# Altium integrated library Renesas Microcontroller H8.IntLib: 489 symbols (part 24 of 25)
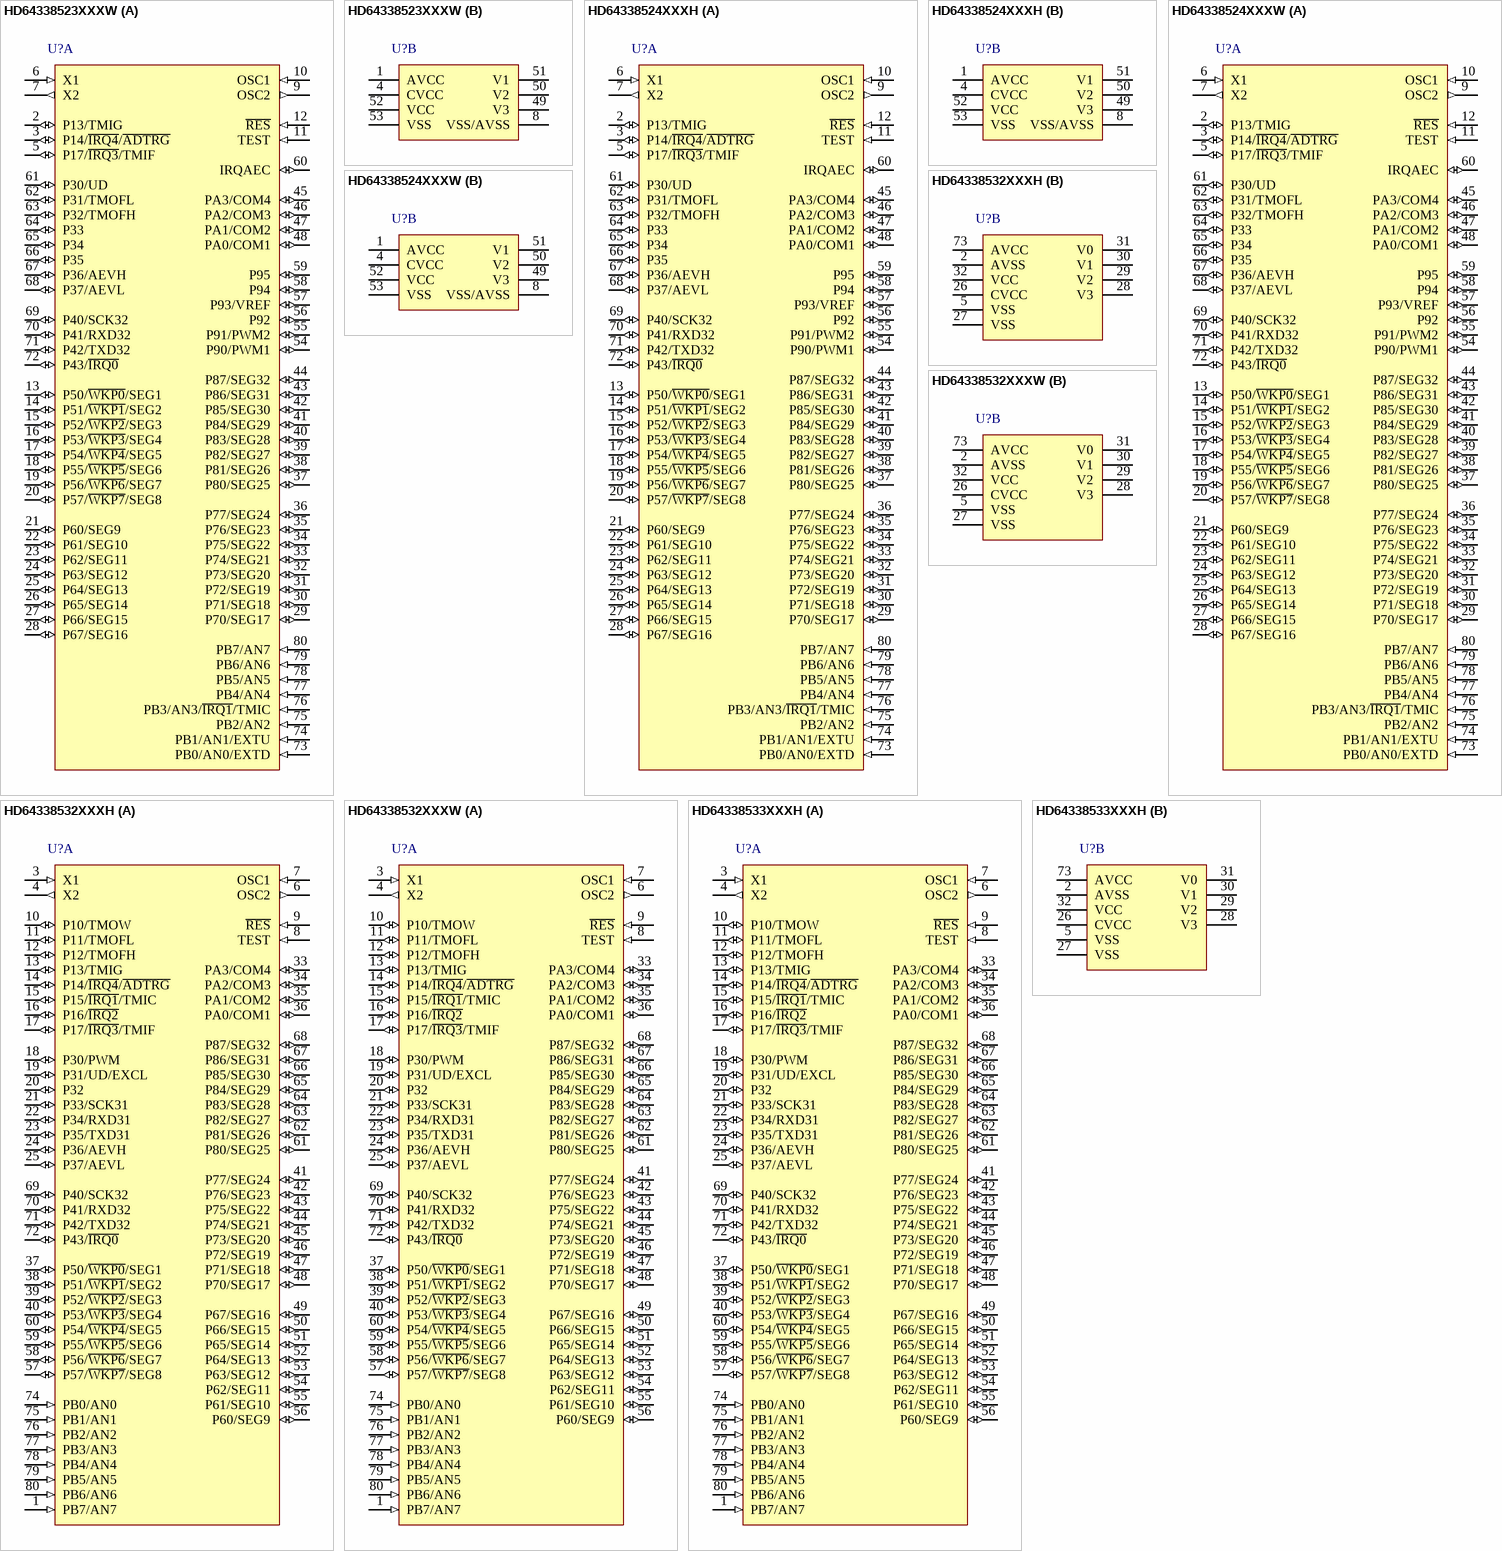
[diagram p111: symbols HD64338523XXXW to HD64338533XXXH]

## HD64338532XXXH
designator U?
H8 Family 32/16-bit CISC, H8/300H Super Low Power, 16K ROM, 1K RAM, 8MHz, 2.7 to 5.5V, 80-Pin QFP; Published: 28-Aug-2009; DatasheetVersion: Rev.1.00, May-2008; PackageVersion: Sep-2005; PackageReference: PRQP0080JB-A; Publisher: Altium Limited; PackageDescription: 80-Pin Plastic Quad Flat Pack, 14 x 14 x 2.7 mm Body, 0.65 mm Pitch; Code_JEITA: P-QFP80-14x14-0.65; Code_IPC: QFP65P1720X1720-80; ComponentLink1Description: Manufacturer Link; ComponentLink1URL: http://sg.renesas.com/fmwk.jsp?cnt=h8_family_landing.jsp&fp=/products/mpumcu/h8_family/; ComponentLink2Description: Datasheet; ComponentLink2URL: http://documentation.renesas.com/eng/products/mpumcu/rej09b0436_h8_38537hm.pdf; ComponentLink3Description: Packaging Specification; ComponentLink3URL: http://sg.renesas.com/media/products/common_info/package/pdf/ic/code/prqp0080jb_a.pdf
footprint PRQP0080JB-A_N (QFP, 80-Leads, Body 14x14mm, Pitch 0.65mm, IPC Medium Density)
footprint PRQP0080JB-A_L (QFP, 80-Leads, Body 14x14mm, Pitch 0.65mm, IPC High Density)
footprint PRQP0080JB-A_M (QFP, 80-Leads, Body 14x14mm, Pitch 0.65mm, IPC Low Density)
part A pins: 1 PB7/AN7 (in), 3 X1 (in), 4 X2 (out), 6 OSC2 (out), 7 OSC1 (in), 8 TEST (in), 9 ~{RES} (in), 10 P10/TMOW (io), 11 P11/TMOFL (io), 12 P12/TMOFH (io), 13 P13/TMIG (io), 14 P14/~{IRQ4}/~{ADTRG} (io), 15 P15/~{IRQ1}/TMIC (io), 16 P16/~{IRQ2} (io), 17 P17/~{IRQ3}/TMIF (io), 18 P30/PWM (io), 19 P31/UD/EXCL (io), 20 P32 (io), 21 P33/SCK31 (io), 22 P34/RXD31 (io), 23 P35/TXD31 (io), 24 P36/AEVH (io), 25 P37/AEVL (io), 33 PA3/COM4 (io), 34 PA2/COM3 (io), 35 PA1/COM2 (io), 36 PA0/COM1 (io), 37 P50/~{WKP0}/SEG1 (io), 38 P51/~{WKP1}/SEG2 (io), 39 P52/~{WKP2}/SEG3 (io), 40 P53/~{WKP3}/SEG4 (io), 41 P77/SEG24 (io), 42 P76/SEG23 (io), 43 P75/SEG22 (io), 44 P74/SEG21 (io), 45 P73/SEG20 (io), 46 P72/SEG19 (io), 47 P71/SEG18 (io), 48 P70/SEG17 (io), 49 P67/SEG16 (io), 50 P66/SEG15 (io), 51 P65/SEG14 (io), 52 P64/SEG13 (io), 53 P63/SEG12 (io), 54 P62/SEG11 (io), 55 P61/SEG10 (io), 56 P60/SEG9 (io), 57 P57/~{WKP7}/SEG8 (io), 58 P56/~{WKP6}/SEG7 (io), 59 P55/~{WKP5}/SEG6 (io), 60 P54/~{WKP4}/SEG5 (io), 61 P80/SEG25 (io), 62 P81/SEG26 (io), 63 P82/SEG27 (io), 64 P83/SEG28 (io), 65 P84/SEG29 (io), 66 P85/SEG30 (io), 67 P86/SEG31 (io), 68 P87/SEG32 (io), 69 P40/SCK32 (io), 70 P41/RXD32 (io), 71 P42/TXD32 (io), 72 P43/~{IRQ0} (io), 74 PB0/AN0 (in), 75 PB1/AN1 (in), 76 PB2/AN2 (in), 77 PB3/AN3 (in), 78 PB4/AN4 (in), 79 PB5/AN5 (in), 80 PB6/AN6 (in)
part B pins: 2 AVSS (power), 5 VSS (power), 26 CVCC (power), 27 VSS (power), 28 V3 (power), 29 V2 (power), 30 V1 (power), 31 V0 (power), 32 VCC (power), 73 AVCC (power)

## HD64338532XXXW
designator U?
H8 Family 32/16-bit CISC, H8/300H Super Low Power, 16K ROM, 1K RAM, 8MHz, 2.7 to 5.5V, 80-Pin QFP; Published: 28-Aug-2009; DatasheetVersion: Rev.1.00, May-2008; PackageVersion: Sep-2005; PackageReference: PTQP0080KC-A; Publisher: Altium Limited; PackageDescription: 80-Pin Plastic Thin Quad Flat Pack, 12 x 12 x 1.0 mm Body, 0.5 mm Pitch; Code_JEITA: P-TQFP80-12x12-0.50; ComponentLink1Description: Manufacturer Link; ComponentLink1URL: http://sg.renesas.com/fmwk.jsp?cnt=h8_family_landing.jsp&fp=/products/mpumcu/h8_family/; ComponentLink2Description: Datasheet; ComponentLink2URL: http://documentation.renesas.com/eng/products/mpumcu/rej09b0436_h8_38537hm.pdf; ComponentLink3Description: Packaging Specification; ComponentLink3URL: http://sg.renesas.com/media/products/common_info/package/pdf/ic/code/ptqp0080kc_a.pdf
footprint PTQP0080KC-A_N (Thin QFP, 80-Leads, Body 12x12mm, Pitch 0.5mm, IPC Medium Density)
footprint PTQP0080KC-A_L (Thin QFP, 80-Leads, Body 12x12mm, Pitch 0.5mm, IPC High Density)
footprint PTQP0080KC-A_M (Thin QFP, 80-Leads, Body 12x12mm, Pitch 0.5mm, IPC Low Density)
part A pins: 1 PB7/AN7 (in), 3 X1 (in), 4 X2 (out), 6 OSC2 (out), 7 OSC1 (in), 8 TEST (in), 9 ~{RES} (in), 10 P10/TMOW (io), 11 P11/TMOFL (io), 12 P12/TMOFH (io), 13 P13/TMIG (io), 14 P14/~{IRQ4}/~{ADTRG} (io), 15 P15/~{IRQ1}/TMIC (io), 16 P16/~{IRQ2} (io), 17 P17/~{IRQ3}/TMIF (io), 18 P30/PWM (io), 19 P31/UD/EXCL (io), 20 P32 (io), 21 P33/SCK31 (io), 22 P34/RXD31 (io), 23 P35/TXD31 (io), 24 P36/AEVH (io), 25 P37/AEVL (io), 33 PA3/COM4 (io), 34 PA2/COM3 (io), 35 PA1/COM2 (io), 36 PA0/COM1 (io), 37 P50/~{WKP0}/SEG1 (io), 38 P51/~{WKP1}/SEG2 (io), 39 P52/~{WKP2}/SEG3 (io), 40 P53/~{WKP3}/SEG4 (io), 41 P77/SEG24 (io), 42 P76/SEG23 (io), 43 P75/SEG22 (io), 44 P74/SEG21 (io), 45 P73/SEG20 (io), 46 P72/SEG19 (io), 47 P71/SEG18 (io), 48 P70/SEG17 (io), 49 P67/SEG16 (io), 50 P66/SEG15 (io), 51 P65/SEG14 (io), 52 P64/SEG13 (io), 53 P63/SEG12 (io), 54 P62/SEG11 (io), 55 P61/SEG10 (io), 56 P60/SEG9 (io), 57 P57/~{WKP7}/SEG8 (io), 58 P56/~{WKP6}/SEG7 (io), 59 P55/~{WKP5}/SEG6 (io), 60 P54/~{WKP4}/SEG5 (io), 61 P80/SEG25 (io), 62 P81/SEG26 (io), 63 P82/SEG27 (io), 64 P83/SEG28 (io), 65 P84/SEG29 (io), 66 P85/SEG30 (io), 67 P86/SEG31 (io), 68 P87/SEG32 (io), 69 P40/SCK32 (io), 70 P41/RXD32 (io), 71 P42/TXD32 (io), 72 P43/~{IRQ0} (io), 74 PB0/AN0 (in), 75 PB1/AN1 (in), 76 PB2/AN2 (in), 77 PB3/AN3 (in), 78 PB4/AN4 (in), 79 PB5/AN5 (in), 80 PB6/AN6 (in)
part B pins: 2 AVSS (power), 5 VSS (power), 26 CVCC (power), 27 VSS (power), 28 V3 (power), 29 V2 (power), 30 V1 (power), 31 V0 (power), 32 VCC (power), 73 AVCC (power)

## HD64338533XXXH
designator U?
H8 Family 32/16-bit CISC, H8/300H Super Low Power, 24K ROM, 1K RAM, 8MHz, 2.7 to 5.5V, 80-Pin QFP; Published: 28-Aug-2009; DatasheetVersion: Rev.1.00, May-2008; PackageVersion: Sep-2005; PackageReference: PRQP0080JB-A; Publisher: Altium Limited; PackageDescription: 80-Pin Plastic Quad Flat Pack, 14 x 14 x 2.7 mm Body, 0.65 mm Pitch; Code_JEITA: P-QFP80-14x14-0.65; Code_IPC: QFP65P1720X1720-80; ComponentLink1Description: Manufacturer Link; ComponentLink1URL: http://sg.renesas.com/fmwk.jsp?cnt=h8_family_landing.jsp&fp=/products/mpumcu/h8_family/; ComponentLink2Description: Datasheet; ComponentLink2URL: http://documentation.renesas.com/eng/products/mpumcu/rej09b0436_h8_38537hm.pdf; ComponentLink3Description: Packaging Specification; ComponentLink3URL: http://sg.renesas.com/media/products/common_info/package/pdf/ic/code/prqp0080jb_a.pdf
footprint PRQP0080JB-A_N (QFP, 80-Leads, Body 14x14mm, Pitch 0.65mm, IPC Medium Density)
footprint PRQP0080JB-A_L (QFP, 80-Leads, Body 14x14mm, Pitch 0.65mm, IPC High Density)
footprint PRQP0080JB-A_M (QFP, 80-Leads, Body 14x14mm, Pitch 0.65mm, IPC Low Density)
part A pins: 1 PB7/AN7 (in), 3 X1 (in), 4 X2 (out), 6 OSC2 (out), 7 OSC1 (in), 8 TEST (in), 9 ~{RES} (in), 10 P10/TMOW (io), 11 P11/TMOFL (io), 12 P12/TMOFH (io), 13 P13/TMIG (io), 14 P14/~{IRQ4}/~{ADTRG} (io), 15 P15/~{IRQ1}/TMIC (io), 16 P16/~{IRQ2} (io), 17 P17/~{IRQ3}/TMIF (io), 18 P30/PWM (io), 19 P31/UD/EXCL (io), 20 P32 (io), 21 P33/SCK31 (io), 22 P34/RXD31 (io), 23 P35/TXD31 (io), 24 P36/AEVH (io), 25 P37/AEVL (io), 33 PA3/COM4 (io), 34 PA2/COM3 (io), 35 PA1/COM2 (io), 36 PA0/COM1 (io), 37 P50/~{WKP0}/SEG1 (io), 38 P51/~{WKP1}/SEG2 (io), 39 P52/~{WKP2}/SEG3 (io), 40 P53/~{WKP3}/SEG4 (io), 41 P77/SEG24 (io), 42 P76/SEG23 (io), 43 P75/SEG22 (io), 44 P74/SEG21 (io), 45 P73/SEG20 (io), 46 P72/SEG19 (io), 47 P71/SEG18 (io), 48 P70/SEG17 (io), 49 P67/SEG16 (io), 50 P66/SEG15 (io), 51 P65/SEG14 (io), 52 P64/SEG13 (io), 53 P63/SEG12 (io), 54 P62/SEG11 (io), 55 P61/SEG10 (io), 56 P60/SEG9 (io), 57 P57/~{WKP7}/SEG8 (io), 58 P56/~{WKP6}/SEG7 (io), 59 P55/~{WKP5}/SEG6 (io), 60 P54/~{WKP4}/SEG5 (io), 61 P80/SEG25 (io), 62 P81/SEG26 (io), 63 P82/SEG27 (io), 64 P83/SEG28 (io), 65 P84/SEG29 (io), 66 P85/SEG30 (io), 67 P86/SEG31 (io), 68 P87/SEG32 (io), 69 P40/SCK32 (io), 70 P41/RXD32 (io), 71 P42/TXD32 (io), 72 P43/~{IRQ0} (io), 74 PB0/AN0 (in), 75 PB1/AN1 (in), 76 PB2/AN2 (in), 77 PB3/AN3 (in), 78 PB4/AN4 (in), 79 PB5/AN5 (in), 80 PB6/AN6 (in)
part B pins: 2 AVSS (power), 5 VSS (power), 26 CVCC (power), 27 VSS (power), 28 V3 (power), 29 V2 (power), 30 V1 (power), 31 V0 (power), 32 VCC (power), 73 AVCC (power)

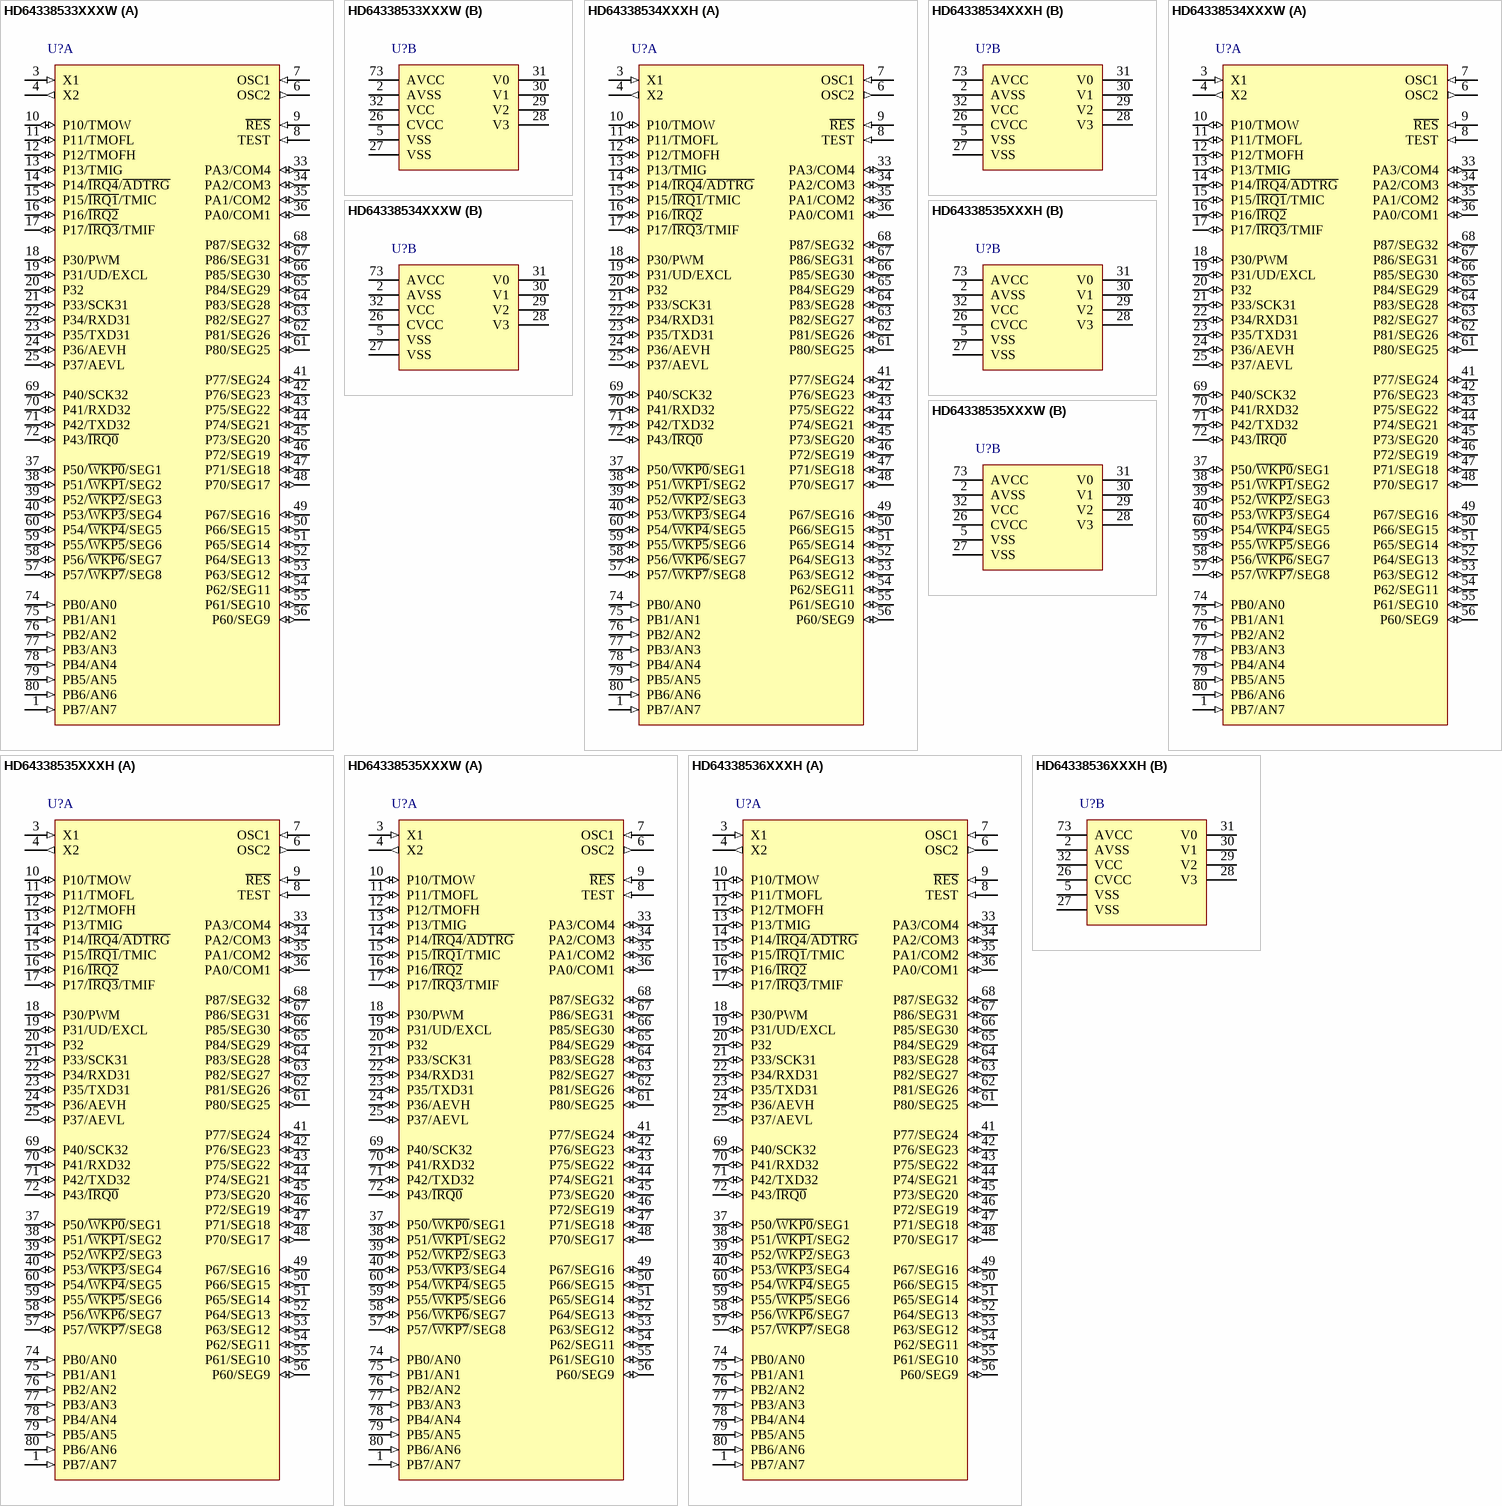
[diagram p83: symbols HD64338533XXXW to HD64338536XXXH]

## HD64338533XXXW
designator U?
H8 Family 32/16-bit CISC, H8/300H Super Low Power, 24K ROM, 1K RAM, 8MHz, 2.7 to 5.5V, 80-Pin QFP; Published: 28-Aug-2009; DatasheetVersion: Rev.1.00, May-2008; PackageVersion: Sep-2005; PackageReference: PTQP0080KC-A; Publisher: Altium Limited; PackageDescription: 80-Pin Plastic Thin Quad Flat Pack, 12 x 12 x 1.0 mm Body, 0.5 mm Pitch; Code_JEITA: P-TQFP80-12x12-0.50; ComponentLink1Description: Manufacturer Link; ComponentLink1URL: http://sg.renesas.com/fmwk.jsp?cnt=h8_family_landing.jsp&fp=/products/mpumcu/h8_family/; ComponentLink2Description: Datasheet; ComponentLink2URL: http://documentation.renesas.com/eng/products/mpumcu/rej09b0436_h8_38537hm.pdf; ComponentLink3Description: Packaging Specification; ComponentLink3URL: http://sg.renesas.com/media/products/common_info/package/pdf/ic/code/ptqp0080kc_a.pdf
footprint PTQP0080KC-A_N (Thin QFP, 80-Leads, Body 12x12mm, Pitch 0.5mm, IPC Medium Density)
footprint PTQP0080KC-A_L (Thin QFP, 80-Leads, Body 12x12mm, Pitch 0.5mm, IPC High Density)
footprint PTQP0080KC-A_M (Thin QFP, 80-Leads, Body 12x12mm, Pitch 0.5mm, IPC Low Density)
part A pins: 1 PB7/AN7 (in), 3 X1 (in), 4 X2 (out), 6 OSC2 (out), 7 OSC1 (in), 8 TEST (in), 9 ~{RES} (in), 10 P10/TMOW (io), 11 P11/TMOFL (io), 12 P12/TMOFH (io), 13 P13/TMIG (io), 14 P14/~{IRQ4}/~{ADTRG} (io), 15 P15/~{IRQ1}/TMIC (io), 16 P16/~{IRQ2} (io), 17 P17/~{IRQ3}/TMIF (io), 18 P30/PWM (io), 19 P31/UD/EXCL (io), 20 P32 (io), 21 P33/SCK31 (io), 22 P34/RXD31 (io), 23 P35/TXD31 (io), 24 P36/AEVH (io), 25 P37/AEVL (io), 33 PA3/COM4 (io), 34 PA2/COM3 (io), 35 PA1/COM2 (io), 36 PA0/COM1 (io), 37 P50/~{WKP0}/SEG1 (io), 38 P51/~{WKP1}/SEG2 (io), 39 P52/~{WKP2}/SEG3 (io), 40 P53/~{WKP3}/SEG4 (io), 41 P77/SEG24 (io), 42 P76/SEG23 (io), 43 P75/SEG22 (io), 44 P74/SEG21 (io), 45 P73/SEG20 (io), 46 P72/SEG19 (io), 47 P71/SEG18 (io), 48 P70/SEG17 (io), 49 P67/SEG16 (io), 50 P66/SEG15 (io), 51 P65/SEG14 (io), 52 P64/SEG13 (io), 53 P63/SEG12 (io), 54 P62/SEG11 (io), 55 P61/SEG10 (io), 56 P60/SEG9 (io), 57 P57/~{WKP7}/SEG8 (io), 58 P56/~{WKP6}/SEG7 (io), 59 P55/~{WKP5}/SEG6 (io), 60 P54/~{WKP4}/SEG5 (io), 61 P80/SEG25 (io), 62 P81/SEG26 (io), 63 P82/SEG27 (io), 64 P83/SEG28 (io), 65 P84/SEG29 (io), 66 P85/SEG30 (io), 67 P86/SEG31 (io), 68 P87/SEG32 (io), 69 P40/SCK32 (io), 70 P41/RXD32 (io), 71 P42/TXD32 (io), 72 P43/~{IRQ0} (io), 74 PB0/AN0 (in), 75 PB1/AN1 (in), 76 PB2/AN2 (in), 77 PB3/AN3 (in), 78 PB4/AN4 (in), 79 PB5/AN5 (in), 80 PB6/AN6 (in)
part B pins: 2 AVSS (power), 5 VSS (power), 26 CVCC (power), 27 VSS (power), 28 V3 (power), 29 V2 (power), 30 V1 (power), 31 V0 (power), 32 VCC (power), 73 AVCC (power)

## HD64338534XXXH
designator U?
H8 Family 32/16-bit CISC, H8/300H Super Low Power, 32K ROM, 2K RAM, 8MHz, 2.7 to 5.5V, 80-Pin QFP; Published: 28-Aug-2009; DatasheetVersion: Rev.1.00, May-2008; PackageVersion: Sep-2005; PackageReference: PRQP0080JB-A; Publisher: Altium Limited; PackageDescription: 80-Pin Plastic Quad Flat Pack, 14 x 14 x 2.7 mm Body, 0.65 mm Pitch; Code_JEITA: P-QFP80-14x14-0.65; Code_IPC: QFP65P1720X1720-80; ComponentLink1Description: Manufacturer Link; ComponentLink1URL: http://sg.renesas.com/fmwk.jsp?cnt=h8_family_landing.jsp&fp=/products/mpumcu/h8_family/; ComponentLink2Description: Datasheet; ComponentLink2URL: http://documentation.renesas.com/eng/products/mpumcu/rej09b0436_h8_38537hm.pdf; ComponentLink3Description: Packaging Specification; ComponentLink3URL: http://sg.renesas.com/media/products/common_info/package/pdf/ic/code/prqp0080jb_a.pdf
footprint PRQP0080JB-A_N (QFP, 80-Leads, Body 14x14mm, Pitch 0.65mm, IPC Medium Density)
footprint PRQP0080JB-A_L (QFP, 80-Leads, Body 14x14mm, Pitch 0.65mm, IPC High Density)
footprint PRQP0080JB-A_M (QFP, 80-Leads, Body 14x14mm, Pitch 0.65mm, IPC Low Density)
part A pins: 1 PB7/AN7 (in), 3 X1 (in), 4 X2 (out), 6 OSC2 (out), 7 OSC1 (in), 8 TEST (in), 9 ~{RES} (in), 10 P10/TMOW (io), 11 P11/TMOFL (io), 12 P12/TMOFH (io), 13 P13/TMIG (io), 14 P14/~{IRQ4}/~{ADTRG} (io), 15 P15/~{IRQ1}/TMIC (io), 16 P16/~{IRQ2} (io), 17 P17/~{IRQ3}/TMIF (io), 18 P30/PWM (io), 19 P31/UD/EXCL (io), 20 P32 (io), 21 P33/SCK31 (io), 22 P34/RXD31 (io), 23 P35/TXD31 (io), 24 P36/AEVH (io), 25 P37/AEVL (io), 33 PA3/COM4 (io), 34 PA2/COM3 (io), 35 PA1/COM2 (io), 36 PA0/COM1 (io), 37 P50/~{WKP0}/SEG1 (io), 38 P51/~{WKP1}/SEG2 (io), 39 P52/~{WKP2}/SEG3 (io), 40 P53/~{WKP3}/SEG4 (io), 41 P77/SEG24 (io), 42 P76/SEG23 (io), 43 P75/SEG22 (io), 44 P74/SEG21 (io), 45 P73/SEG20 (io), 46 P72/SEG19 (io), 47 P71/SEG18 (io), 48 P70/SEG17 (io), 49 P67/SEG16 (io), 50 P66/SEG15 (io), 51 P65/SEG14 (io), 52 P64/SEG13 (io), 53 P63/SEG12 (io), 54 P62/SEG11 (io), 55 P61/SEG10 (io), 56 P60/SEG9 (io), 57 P57/~{WKP7}/SEG8 (io), 58 P56/~{WKP6}/SEG7 (io), 59 P55/~{WKP5}/SEG6 (io), 60 P54/~{WKP4}/SEG5 (io), 61 P80/SEG25 (io), 62 P81/SEG26 (io), 63 P82/SEG27 (io), 64 P83/SEG28 (io), 65 P84/SEG29 (io), 66 P85/SEG30 (io), 67 P86/SEG31 (io), 68 P87/SEG32 (io), 69 P40/SCK32 (io), 70 P41/RXD32 (io), 71 P42/TXD32 (io), 72 P43/~{IRQ0} (io), 74 PB0/AN0 (in), 75 PB1/AN1 (in), 76 PB2/AN2 (in), 77 PB3/AN3 (in), 78 PB4/AN4 (in), 79 PB5/AN5 (in), 80 PB6/AN6 (in)
part B pins: 2 AVSS (power), 5 VSS (power), 26 CVCC (power), 27 VSS (power), 28 V3 (power), 29 V2 (power), 30 V1 (power), 31 V0 (power), 32 VCC (power), 73 AVCC (power)

## HD64338534XXXW
designator U?
H8 Family 32/16-bit CISC, H8/300H Super Low Power, 32K ROM, 2K RAM, 8MHz, 2.7 to 5.5V, 80-Pin QFP; Published: 28-Aug-2009; DatasheetVersion: Rev.1.00, May-2008; PackageVersion: Sep-2005; PackageReference: PTQP0080KC-A; Publisher: Altium Limited; PackageDescription: 80-Pin Plastic Thin Quad Flat Pack, 12 x 12 x 1.0 mm Body, 0.5 mm Pitch; Code_JEITA: P-TQFP80-12x12-0.50; ComponentLink1Description: Manufacturer Link; ComponentLink1URL: http://sg.renesas.com/fmwk.jsp?cnt=h8_family_landing.jsp&fp=/products/mpumcu/h8_family/; ComponentLink2Description: Datasheet; ComponentLink2URL: http://documentation.renesas.com/eng/products/mpumcu/rej09b0436_h8_38537hm.pdf; ComponentLink3Description: Packaging Specification; ComponentLink3URL: http://sg.renesas.com/media/products/common_info/package/pdf/ic/code/ptqp0080kc_a.pdf
footprint PTQP0080KC-A_N (Thin QFP, 80-Leads, Body 12x12mm, Pitch 0.5mm, IPC Medium Density)
footprint PTQP0080KC-A_L (Thin QFP, 80-Leads, Body 12x12mm, Pitch 0.5mm, IPC High Density)
footprint PTQP0080KC-A_M (Thin QFP, 80-Leads, Body 12x12mm, Pitch 0.5mm, IPC Low Density)
part A pins: 1 PB7/AN7 (in), 3 X1 (in), 4 X2 (out), 6 OSC2 (out), 7 OSC1 (in), 8 TEST (in), 9 ~{RES} (in), 10 P10/TMOW (io), 11 P11/TMOFL (io), 12 P12/TMOFH (io), 13 P13/TMIG (io), 14 P14/~{IRQ4}/~{ADTRG} (io), 15 P15/~{IRQ1}/TMIC (io), 16 P16/~{IRQ2} (io), 17 P17/~{IRQ3}/TMIF (io), 18 P30/PWM (io), 19 P31/UD/EXCL (io), 20 P32 (io), 21 P33/SCK31 (io), 22 P34/RXD31 (io), 23 P35/TXD31 (io), 24 P36/AEVH (io), 25 P37/AEVL (io), 33 PA3/COM4 (io), 34 PA2/COM3 (io), 35 PA1/COM2 (io), 36 PA0/COM1 (io), 37 P50/~{WKP0}/SEG1 (io), 38 P51/~{WKP1}/SEG2 (io), 39 P52/~{WKP2}/SEG3 (io), 40 P53/~{WKP3}/SEG4 (io), 41 P77/SEG24 (io), 42 P76/SEG23 (io), 43 P75/SEG22 (io), 44 P74/SEG21 (io), 45 P73/SEG20 (io), 46 P72/SEG19 (io), 47 P71/SEG18 (io), 48 P70/SEG17 (io), 49 P67/SEG16 (io), 50 P66/SEG15 (io), 51 P65/SEG14 (io), 52 P64/SEG13 (io), 53 P63/SEG12 (io), 54 P62/SEG11 (io), 55 P61/SEG10 (io), 56 P60/SEG9 (io), 57 P57/~{WKP7}/SEG8 (io), 58 P56/~{WKP6}/SEG7 (io), 59 P55/~{WKP5}/SEG6 (io), 60 P54/~{WKP4}/SEG5 (io), 61 P80/SEG25 (io), 62 P81/SEG26 (io), 63 P82/SEG27 (io), 64 P83/SEG28 (io), 65 P84/SEG29 (io), 66 P85/SEG30 (io), 67 P86/SEG31 (io), 68 P87/SEG32 (io), 69 P40/SCK32 (io), 70 P41/RXD32 (io), 71 P42/TXD32 (io), 72 P43/~{IRQ0} (io), 74 PB0/AN0 (in), 75 PB1/AN1 (in), 76 PB2/AN2 (in), 77 PB3/AN3 (in), 78 PB4/AN4 (in), 79 PB5/AN5 (in), 80 PB6/AN6 (in)
part B pins: 2 AVSS (power), 5 VSS (power), 26 CVCC (power), 27 VSS (power), 28 V3 (power), 29 V2 (power), 30 V1 (power), 31 V0 (power), 32 VCC (power), 73 AVCC (power)

## HD64338535XXXH
designator U?
H8 Family 32/16-bit CISC, H8/300H Super Low Power, 40K ROM, 2K RAM, 8MHz, 2.7 to 5.5V, 80-Pin QFP; Published: 28-Aug-2009; DatasheetVersion: Rev.1.00, May-2008; PackageVersion: Sep-2005; PackageReference: PRQP0080JB-A; Publisher: Altium Limited; PackageDescription: 80-Pin Plastic Quad Flat Pack, 14 x 14 x 2.7 mm Body, 0.65 mm Pitch; Code_JEITA: P-QFP80-14x14-0.65; Code_IPC: QFP65P1720X1720-80; ComponentLink1Description: Manufacturer Link; ComponentLink1URL: http://sg.renesas.com/fmwk.jsp?cnt=h8_family_landing.jsp&fp=/products/mpumcu/h8_family/; ComponentLink2Description: Datasheet; ComponentLink2URL: http://documentation.renesas.com/eng/products/mpumcu/rej09b0436_h8_38537hm.pdf; ComponentLink3Description: Packaging Specification; ComponentLink3URL: http://sg.renesas.com/media/products/common_info/package/pdf/ic/code/prqp0080jb_a.pdf
footprint PRQP0080JB-A_N (QFP, 80-Leads, Body 14x14mm, Pitch 0.65mm, IPC Medium Density)
footprint PRQP0080JB-A_L (QFP, 80-Leads, Body 14x14mm, Pitch 0.65mm, IPC High Density)
footprint PRQP0080JB-A_M (QFP, 80-Leads, Body 14x14mm, Pitch 0.65mm, IPC Low Density)
part A pins: 1 PB7/AN7 (in), 3 X1 (in), 4 X2 (out), 6 OSC2 (out), 7 OSC1 (in), 8 TEST (in), 9 ~{RES} (in), 10 P10/TMOW (io), 11 P11/TMOFL (io), 12 P12/TMOFH (io), 13 P13/TMIG (io), 14 P14/~{IRQ4}/~{ADTRG} (io), 15 P15/~{IRQ1}/TMIC (io), 16 P16/~{IRQ2} (io), 17 P17/~{IRQ3}/TMIF (io), 18 P30/PWM (io), 19 P31/UD/EXCL (io), 20 P32 (io), 21 P33/SCK31 (io), 22 P34/RXD31 (io), 23 P35/TXD31 (io), 24 P36/AEVH (io), 25 P37/AEVL (io), 33 PA3/COM4 (io), 34 PA2/COM3 (io), 35 PA1/COM2 (io), 36 PA0/COM1 (io), 37 P50/~{WKP0}/SEG1 (io), 38 P51/~{WKP1}/SEG2 (io), 39 P52/~{WKP2}/SEG3 (io), 40 P53/~{WKP3}/SEG4 (io), 41 P77/SEG24 (io), 42 P76/SEG23 (io), 43 P75/SEG22 (io), 44 P74/SEG21 (io), 45 P73/SEG20 (io), 46 P72/SEG19 (io), 47 P71/SEG18 (io), 48 P70/SEG17 (io), 49 P67/SEG16 (io), 50 P66/SEG15 (io), 51 P65/SEG14 (io), 52 P64/SEG13 (io), 53 P63/SEG12 (io), 54 P62/SEG11 (io), 55 P61/SEG10 (io), 56 P60/SEG9 (io), 57 P57/~{WKP7}/SEG8 (io), 58 P56/~{WKP6}/SEG7 (io), 59 P55/~{WKP5}/SEG6 (io), 60 P54/~{WKP4}/SEG5 (io), 61 P80/SEG25 (io), 62 P81/SEG26 (io), 63 P82/SEG27 (io), 64 P83/SEG28 (io), 65 P84/SEG29 (io), 66 P85/SEG30 (io), 67 P86/SEG31 (io), 68 P87/SEG32 (io), 69 P40/SCK32 (io), 70 P41/RXD32 (io), 71 P42/TXD32 (io), 72 P43/~{IRQ0} (io), 74 PB0/AN0 (in), 75 PB1/AN1 (in), 76 PB2/AN2 (in), 77 PB3/AN3 (in), 78 PB4/AN4 (in), 79 PB5/AN5 (in), 80 PB6/AN6 (in)
part B pins: 2 AVSS (power), 5 VSS (power), 26 CVCC (power), 27 VSS (power), 28 V3 (power), 29 V2 (power), 30 V1 (power), 31 V0 (power), 32 VCC (power), 73 AVCC (power)

## HD64338535XXXW
designator U?
H8 Family 32/16-bit CISC, H8/300H Super Low Power, 40K ROM, 2K RAM, 8MHz, 2.7 to 5.5V, 80-Pin QFP; Published: 28-Aug-2009; DatasheetVersion: Rev.1.00, May-2008; PackageVersion: Sep-2005; PackageReference: PTQP0080KC-A; Publisher: Altium Limited; PackageDescription: 80-Pin Plastic Thin Quad Flat Pack, 12 x 12 x 1.0 mm Body, 0.5 mm Pitch; Code_JEITA: P-TQFP80-12x12-0.50; ComponentLink1Description: Manufacturer Link; ComponentLink1URL: http://sg.renesas.com/fmwk.jsp?cnt=h8_family_landing.jsp&fp=/products/mpumcu/h8_family/; ComponentLink2Description: Datasheet; ComponentLink2URL: http://documentation.renesas.com/eng/products/mpumcu/rej09b0436_h8_38537hm.pdf; ComponentLink3Description: Packaging Specification; ComponentLink3URL: http://sg.renesas.com/media/products/common_info/package/pdf/ic/code/ptqp0080kc_a.pdf
footprint PTQP0080KC-A_N (Thin QFP, 80-Leads, Body 12x12mm, Pitch 0.5mm, IPC Medium Density)
footprint PTQP0080KC-A_L (Thin QFP, 80-Leads, Body 12x12mm, Pitch 0.5mm, IPC High Density)
footprint PTQP0080KC-A_M (Thin QFP, 80-Leads, Body 12x12mm, Pitch 0.5mm, IPC Low Density)
part A pins: 1 PB7/AN7 (in), 3 X1 (in), 4 X2 (out), 6 OSC2 (out), 7 OSC1 (in), 8 TEST (in), 9 ~{RES} (in), 10 P10/TMOW (io), 11 P11/TMOFL (io), 12 P12/TMOFH (io), 13 P13/TMIG (io), 14 P14/~{IRQ4}/~{ADTRG} (io), 15 P15/~{IRQ1}/TMIC (io), 16 P16/~{IRQ2} (io), 17 P17/~{IRQ3}/TMIF (io), 18 P30/PWM (io), 19 P31/UD/EXCL (io), 20 P32 (io), 21 P33/SCK31 (io), 22 P34/RXD31 (io), 23 P35/TXD31 (io), 24 P36/AEVH (io), 25 P37/AEVL (io), 33 PA3/COM4 (io), 34 PA2/COM3 (io), 35 PA1/COM2 (io), 36 PA0/COM1 (io), 37 P50/~{WKP0}/SEG1 (io), 38 P51/~{WKP1}/SEG2 (io), 39 P52/~{WKP2}/SEG3 (io), 40 P53/~{WKP3}/SEG4 (io), 41 P77/SEG24 (io), 42 P76/SEG23 (io), 43 P75/SEG22 (io), 44 P74/SEG21 (io), 45 P73/SEG20 (io), 46 P72/SEG19 (io), 47 P71/SEG18 (io), 48 P70/SEG17 (io), 49 P67/SEG16 (io), 50 P66/SEG15 (io), 51 P65/SEG14 (io), 52 P64/SEG13 (io), 53 P63/SEG12 (io), 54 P62/SEG11 (io), 55 P61/SEG10 (io), 56 P60/SEG9 (io), 57 P57/~{WKP7}/SEG8 (io), 58 P56/~{WKP6}/SEG7 (io), 59 P55/~{WKP5}/SEG6 (io), 60 P54/~{WKP4}/SEG5 (io), 61 P80/SEG25 (io), 62 P81/SEG26 (io), 63 P82/SEG27 (io), 64 P83/SEG28 (io), 65 P84/SEG29 (io), 66 P85/SEG30 (io), 67 P86/SEG31 (io), 68 P87/SEG32 (io), 69 P40/SCK32 (io), 70 P41/RXD32 (io), 71 P42/TXD32 (io), 72 P43/~{IRQ0} (io), 74 PB0/AN0 (in), 75 PB1/AN1 (in), 76 PB2/AN2 (in), 77 PB3/AN3 (in), 78 PB4/AN4 (in), 79 PB5/AN5 (in), 80 PB6/AN6 (in)
part B pins: 2 AVSS (power), 5 VSS (power), 26 CVCC (power), 27 VSS (power), 28 V3 (power), 29 V2 (power), 30 V1 (power), 31 V0 (power), 32 VCC (power), 73 AVCC (power)

## HD64338536XXXH
designator U?
H8 Family 32/16-bit CISC, H8/300H Super Low Power, 48K ROM, 2K RAM, 8MHz, 2.7 to 5.5V, 80-Pin QFP; Published: 28-Aug-2009; DatasheetVersion: Rev.1.00, May-2008; PackageVersion: Sep-2005; PackageReference: PRQP0080JB-A; Publisher: Altium Limited; PackageDescription: 80-Pin Plastic Quad Flat Pack, 14 x 14 x 2.7 mm Body, 0.65 mm Pitch; Code_JEITA: P-QFP80-14x14-0.65; Code_IPC: QFP65P1720X1720-80; ComponentLink1Description: Manufacturer Link; ComponentLink1URL: http://sg.renesas.com/fmwk.jsp?cnt=h8_family_landing.jsp&fp=/products/mpumcu/h8_family/; ComponentLink2Description: Datasheet; ComponentLink2URL: http://documentation.renesas.com/eng/products/mpumcu/rej09b0436_h8_38537hm.pdf; ComponentLink3Description: Packaging Specification; ComponentLink3URL: http://sg.renesas.com/media/products/common_info/package/pdf/ic/code/prqp0080jb_a.pdf
footprint PRQP0080JB-A_N (QFP, 80-Leads, Body 14x14mm, Pitch 0.65mm, IPC Medium Density)
footprint PRQP0080JB-A_L (QFP, 80-Leads, Body 14x14mm, Pitch 0.65mm, IPC High Density)
footprint PRQP0080JB-A_M (QFP, 80-Leads, Body 14x14mm, Pitch 0.65mm, IPC Low Density)
part A pins: 1 PB7/AN7 (in), 3 X1 (in), 4 X2 (out), 6 OSC2 (out), 7 OSC1 (in), 8 TEST (in), 9 ~{RES} (in), 10 P10/TMOW (io), 11 P11/TMOFL (io), 12 P12/TMOFH (io), 13 P13/TMIG (io), 14 P14/~{IRQ4}/~{ADTRG} (io), 15 P15/~{IRQ1}/TMIC (io), 16 P16/~{IRQ2} (io), 17 P17/~{IRQ3}/TMIF (io), 18 P30/PWM (io), 19 P31/UD/EXCL (io), 20 P32 (io), 21 P33/SCK31 (io), 22 P34/RXD31 (io), 23 P35/TXD31 (io), 24 P36/AEVH (io), 25 P37/AEVL (io), 33 PA3/COM4 (io), 34 PA2/COM3 (io), 35 PA1/COM2 (io), 36 PA0/COM1 (io), 37 P50/~{WKP0}/SEG1 (io), 38 P51/~{WKP1}/SEG2 (io), 39 P52/~{WKP2}/SEG3 (io), 40 P53/~{WKP3}/SEG4 (io), 41 P77/SEG24 (io), 42 P76/SEG23 (io), 43 P75/SEG22 (io), 44 P74/SEG21 (io), 45 P73/SEG20 (io), 46 P72/SEG19 (io), 47 P71/SEG18 (io), 48 P70/SEG17 (io), 49 P67/SEG16 (io), 50 P66/SEG15 (io), 51 P65/SEG14 (io), 52 P64/SEG13 (io), 53 P63/SEG12 (io), 54 P62/SEG11 (io), 55 P61/SEG10 (io), 56 P60/SEG9 (io), 57 P57/~{WKP7}/SEG8 (io), 58 P56/~{WKP6}/SEG7 (io), 59 P55/~{WKP5}/SEG6 (io), 60 P54/~{WKP4}/SEG5 (io), 61 P80/SEG25 (io), 62 P81/SEG26 (io), 63 P82/SEG27 (io), 64 P83/SEG28 (io), 65 P84/SEG29 (io), 66 P85/SEG30 (io), 67 P86/SEG31 (io), 68 P87/SEG32 (io), 69 P40/SCK32 (io), 70 P41/RXD32 (io), 71 P42/TXD32 (io), 72 P43/~{IRQ0} (io), 74 PB0/AN0 (in), 75 PB1/AN1 (in), 76 PB2/AN2 (in), 77 PB3/AN3 (in), 78 PB4/AN4 (in), 79 PB5/AN5 (in), 80 PB6/AN6 (in)
part B pins: 2 AVSS (power), 5 VSS (power), 26 CVCC (power), 27 VSS (power), 28 V3 (power), 29 V2 (power), 30 V1 (power), 31 V0 (power), 32 VCC (power), 73 AVCC (power)

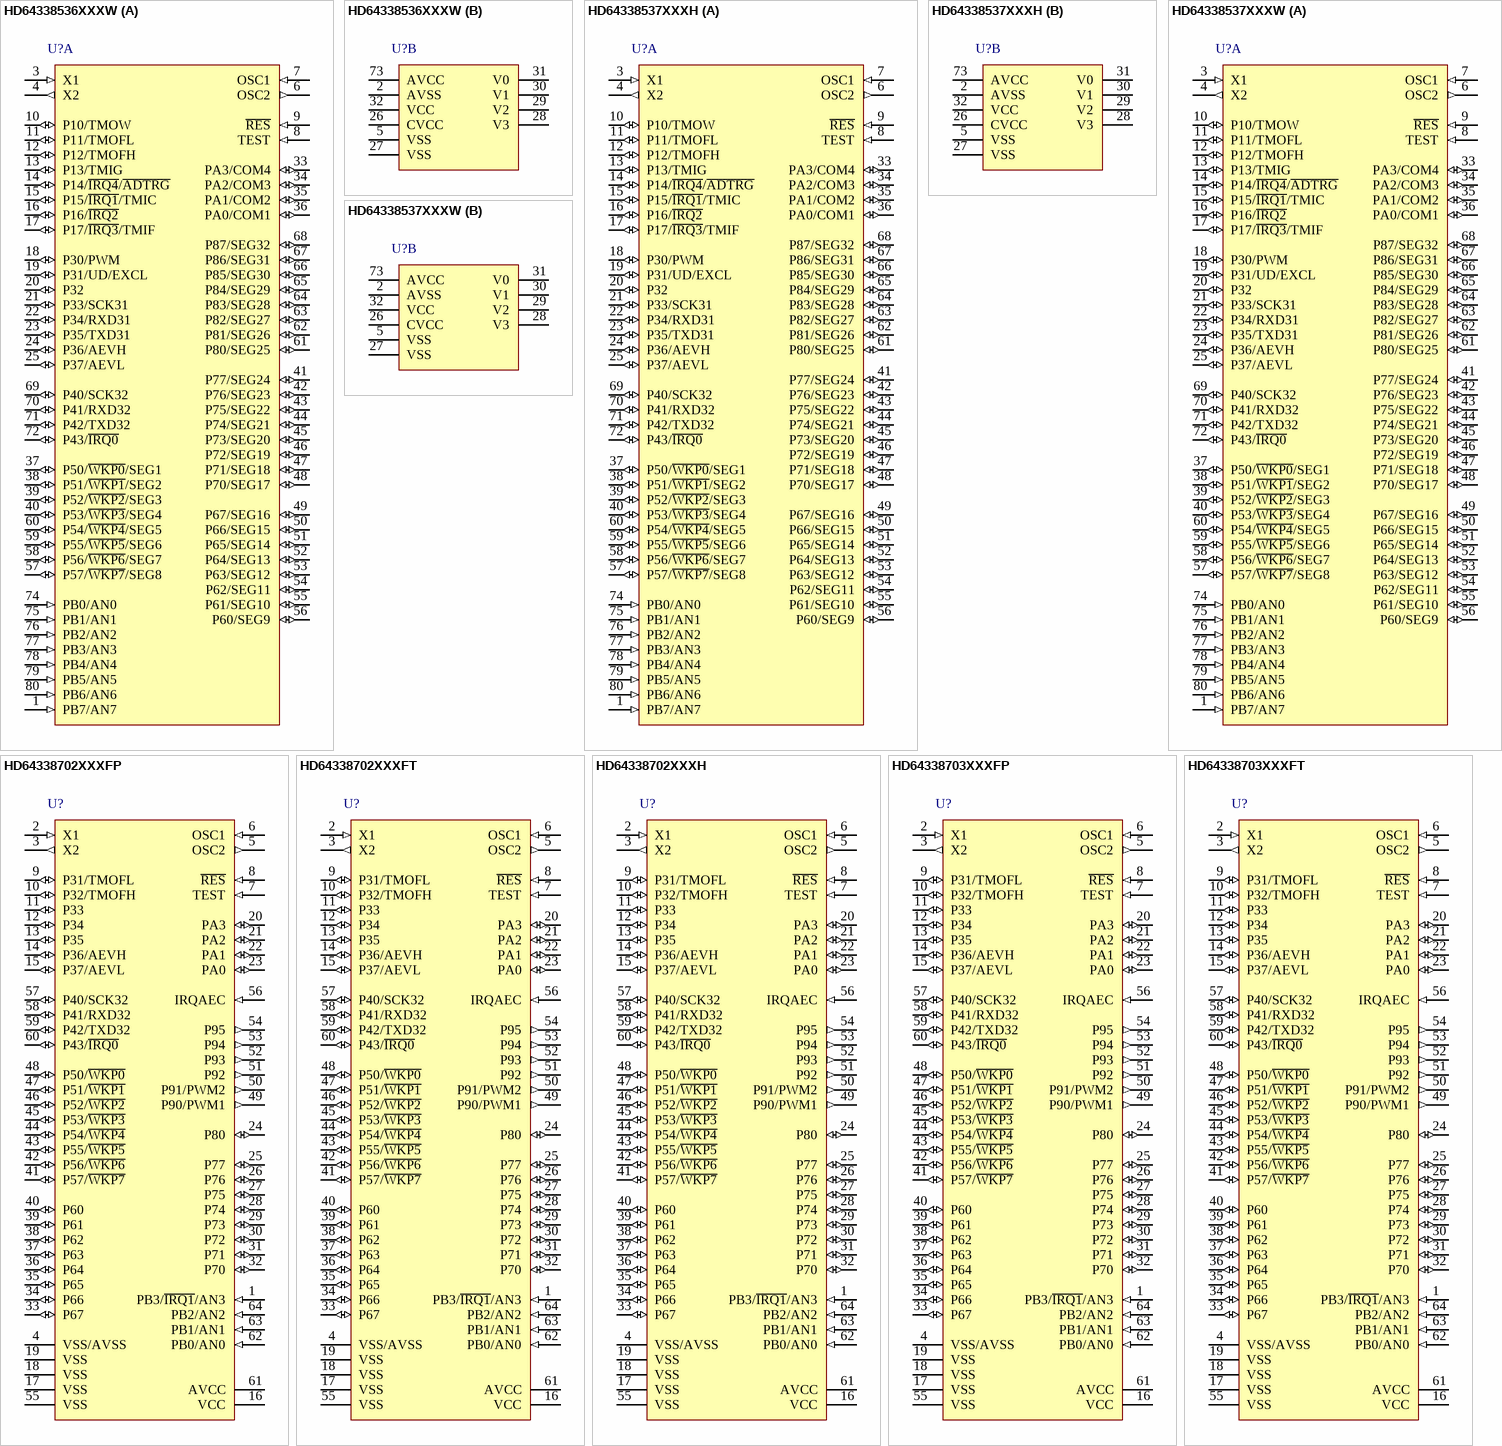
[diagram p84: symbols HD64338536XXXW to HD64338703XXXFT]

## HD64338536XXXW
designator U?
H8 Family 32/16-bit CISC, H8/300H Super Low Power, 48K ROM, 2K RAM, 8MHz, 2.7 to 5.5V, 80-Pin QFP; Published: 28-Aug-2009; DatasheetVersion: Rev.1.00, May-2008; PackageVersion: Sep-2005; PackageReference: PTQP0080KC-A; Publisher: Altium Limited; PackageDescription: 80-Pin Plastic Thin Quad Flat Pack, 12 x 12 x 1.0 mm Body, 0.5 mm Pitch; Code_JEITA: P-TQFP80-12x12-0.50; ComponentLink1Description: Manufacturer Link; ComponentLink1URL: http://sg.renesas.com/fmwk.jsp?cnt=h8_family_landing.jsp&fp=/products/mpumcu/h8_family/; ComponentLink2Description: Datasheet; ComponentLink2URL: http://documentation.renesas.com/eng/products/mpumcu/rej09b0436_h8_38537hm.pdf; ComponentLink3Description: Packaging Specification; ComponentLink3URL: http://sg.renesas.com/media/products/common_info/package/pdf/ic/code/ptqp0080kc_a.pdf
footprint PTQP0080KC-A_N (Thin QFP, 80-Leads, Body 12x12mm, Pitch 0.5mm, IPC Medium Density)
footprint PTQP0080KC-A_L (Thin QFP, 80-Leads, Body 12x12mm, Pitch 0.5mm, IPC High Density)
footprint PTQP0080KC-A_M (Thin QFP, 80-Leads, Body 12x12mm, Pitch 0.5mm, IPC Low Density)
part A pins: 1 PB7/AN7 (in), 3 X1 (in), 4 X2 (out), 6 OSC2 (out), 7 OSC1 (in), 8 TEST (in), 9 ~{RES} (in), 10 P10/TMOW (io), 11 P11/TMOFL (io), 12 P12/TMOFH (io), 13 P13/TMIG (io), 14 P14/~{IRQ4}/~{ADTRG} (io), 15 P15/~{IRQ1}/TMIC (io), 16 P16/~{IRQ2} (io), 17 P17/~{IRQ3}/TMIF (io), 18 P30/PWM (io), 19 P31/UD/EXCL (io), 20 P32 (io), 21 P33/SCK31 (io), 22 P34/RXD31 (io), 23 P35/TXD31 (io), 24 P36/AEVH (io), 25 P37/AEVL (io), 33 PA3/COM4 (io), 34 PA2/COM3 (io), 35 PA1/COM2 (io), 36 PA0/COM1 (io), 37 P50/~{WKP0}/SEG1 (io), 38 P51/~{WKP1}/SEG2 (io), 39 P52/~{WKP2}/SEG3 (io), 40 P53/~{WKP3}/SEG4 (io), 41 P77/SEG24 (io), 42 P76/SEG23 (io), 43 P75/SEG22 (io), 44 P74/SEG21 (io), 45 P73/SEG20 (io), 46 P72/SEG19 (io), 47 P71/SEG18 (io), 48 P70/SEG17 (io), 49 P67/SEG16 (io), 50 P66/SEG15 (io), 51 P65/SEG14 (io), 52 P64/SEG13 (io), 53 P63/SEG12 (io), 54 P62/SEG11 (io), 55 P61/SEG10 (io), 56 P60/SEG9 (io), 57 P57/~{WKP7}/SEG8 (io), 58 P56/~{WKP6}/SEG7 (io), 59 P55/~{WKP5}/SEG6 (io), 60 P54/~{WKP4}/SEG5 (io), 61 P80/SEG25 (io), 62 P81/SEG26 (io), 63 P82/SEG27 (io), 64 P83/SEG28 (io), 65 P84/SEG29 (io), 66 P85/SEG30 (io), 67 P86/SEG31 (io), 68 P87/SEG32 (io), 69 P40/SCK32 (io), 70 P41/RXD32 (io), 71 P42/TXD32 (io), 72 P43/~{IRQ0} (io), 74 PB0/AN0 (in), 75 PB1/AN1 (in), 76 PB2/AN2 (in), 77 PB3/AN3 (in), 78 PB4/AN4 (in), 79 PB5/AN5 (in), 80 PB6/AN6 (in)
part B pins: 2 AVSS (power), 5 VSS (power), 26 CVCC (power), 27 VSS (power), 28 V3 (power), 29 V2 (power), 30 V1 (power), 31 V0 (power), 32 VCC (power), 73 AVCC (power)

## HD64338537XXXH
designator U?
H8 Family 32/16-bit CISC, H8/300H Super Low Power, 60K ROM, 2K RAM, 8MHz, 2.7 to 5.5V, 80-Pin QFP; Published: 28-Aug-2009; DatasheetVersion: Rev.1.00, May-2008; PackageVersion: Sep-2005; PackageReference: PRQP0080JB-A; Publisher: Altium Limited; PackageDescription: 80-Pin Plastic Quad Flat Pack, 14 x 14 x 2.7 mm Body, 0.65 mm Pitch; Code_JEITA: P-QFP80-14x14-0.65; Code_IPC: QFP65P1720X1720-80; ComponentLink1Description: Manufacturer Link; ComponentLink1URL: http://sg.renesas.com/fmwk.jsp?cnt=h8_family_landing.jsp&fp=/products/mpumcu/h8_family/; ComponentLink2Description: Datasheet; ComponentLink2URL: http://documentation.renesas.com/eng/products/mpumcu/rej09b0436_h8_38537hm.pdf; ComponentLink3Description: Packaging Specification; ComponentLink3URL: http://sg.renesas.com/media/products/common_info/package/pdf/ic/code/prqp0080jb_a.pdf
footprint PRQP0080JB-A_N (QFP, 80-Leads, Body 14x14mm, Pitch 0.65mm, IPC Medium Density)
footprint PRQP0080JB-A_L (QFP, 80-Leads, Body 14x14mm, Pitch 0.65mm, IPC High Density)
footprint PRQP0080JB-A_M (QFP, 80-Leads, Body 14x14mm, Pitch 0.65mm, IPC Low Density)
part A pins: 1 PB7/AN7 (in), 3 X1 (in), 4 X2 (out), 6 OSC2 (out), 7 OSC1 (in), 8 TEST (in), 9 ~{RES} (in), 10 P10/TMOW (io), 11 P11/TMOFL (io), 12 P12/TMOFH (io), 13 P13/TMIG (io), 14 P14/~{IRQ4}/~{ADTRG} (io), 15 P15/~{IRQ1}/TMIC (io), 16 P16/~{IRQ2} (io), 17 P17/~{IRQ3}/TMIF (io), 18 P30/PWM (io), 19 P31/UD/EXCL (io), 20 P32 (io), 21 P33/SCK31 (io), 22 P34/RXD31 (io), 23 P35/TXD31 (io), 24 P36/AEVH (io), 25 P37/AEVL (io), 33 PA3/COM4 (io), 34 PA2/COM3 (io), 35 PA1/COM2 (io), 36 PA0/COM1 (io), 37 P50/~{WKP0}/SEG1 (io), 38 P51/~{WKP1}/SEG2 (io), 39 P52/~{WKP2}/SEG3 (io), 40 P53/~{WKP3}/SEG4 (io), 41 P77/SEG24 (io), 42 P76/SEG23 (io), 43 P75/SEG22 (io), 44 P74/SEG21 (io), 45 P73/SEG20 (io), 46 P72/SEG19 (io), 47 P71/SEG18 (io), 48 P70/SEG17 (io), 49 P67/SEG16 (io), 50 P66/SEG15 (io), 51 P65/SEG14 (io), 52 P64/SEG13 (io), 53 P63/SEG12 (io), 54 P62/SEG11 (io), 55 P61/SEG10 (io), 56 P60/SEG9 (io), 57 P57/~{WKP7}/SEG8 (io), 58 P56/~{WKP6}/SEG7 (io), 59 P55/~{WKP5}/SEG6 (io), 60 P54/~{WKP4}/SEG5 (io), 61 P80/SEG25 (io), 62 P81/SEG26 (io), 63 P82/SEG27 (io), 64 P83/SEG28 (io), 65 P84/SEG29 (io), 66 P85/SEG30 (io), 67 P86/SEG31 (io), 68 P87/SEG32 (io), 69 P40/SCK32 (io), 70 P41/RXD32 (io), 71 P42/TXD32 (io), 72 P43/~{IRQ0} (io), 74 PB0/AN0 (in), 75 PB1/AN1 (in), 76 PB2/AN2 (in), 77 PB3/AN3 (in), 78 PB4/AN4 (in), 79 PB5/AN5 (in), 80 PB6/AN6 (in)
part B pins: 2 AVSS (power), 5 VSS (power), 26 CVCC (power), 27 VSS (power), 28 V3 (power), 29 V2 (power), 30 V1 (power), 31 V0 (power), 32 VCC (power), 73 AVCC (power)

## HD64338537XXXW
designator U?
H8 Family 32/16-bit CISC, H8/300H Super Low Power, 60K ROM, 2K RAM, 8MHz, 2.7 to 5.5V, 80-Pin QFP; Published: 28-Aug-2009; DatasheetVersion: Rev.1.00, May-2008; PackageVersion: Sep-2005; PackageReference: PTQP0080KC-A; Publisher: Altium Limited; PackageDescription: 80-Pin Plastic Thin Quad Flat Pack, 12 x 12 x 1.0 mm Body, 0.5 mm Pitch; Code_JEITA: P-TQFP80-12x12-0.50; ComponentLink1Description: Manufacturer Link; ComponentLink1URL: http://sg.renesas.com/fmwk.jsp?cnt=h8_family_landing.jsp&fp=/products/mpumcu/h8_family/; ComponentLink2Description: Datasheet; ComponentLink2URL: http://documentation.renesas.com/eng/products/mpumcu/rej09b0436_h8_38537hm.pdf; ComponentLink3Description: Packaging Specification; ComponentLink3URL: http://sg.renesas.com/media/products/common_info/package/pdf/ic/code/ptqp0080kc_a.pdf
footprint PTQP0080KC-A_N (Thin QFP, 80-Leads, Body 12x12mm, Pitch 0.5mm, IPC Medium Density)
footprint PTQP0080KC-A_L (Thin QFP, 80-Leads, Body 12x12mm, Pitch 0.5mm, IPC High Density)
footprint PTQP0080KC-A_M (Thin QFP, 80-Leads, Body 12x12mm, Pitch 0.5mm, IPC Low Density)
part A pins: 1 PB7/AN7 (in), 3 X1 (in), 4 X2 (out), 6 OSC2 (out), 7 OSC1 (in), 8 TEST (in), 9 ~{RES} (in), 10 P10/TMOW (io), 11 P11/TMOFL (io), 12 P12/TMOFH (io), 13 P13/TMIG (io), 14 P14/~{IRQ4}/~{ADTRG} (io), 15 P15/~{IRQ1}/TMIC (io), 16 P16/~{IRQ2} (io), 17 P17/~{IRQ3}/TMIF (io), 18 P30/PWM (io), 19 P31/UD/EXCL (io), 20 P32 (io), 21 P33/SCK31 (io), 22 P34/RXD31 (io), 23 P35/TXD31 (io), 24 P36/AEVH (io), 25 P37/AEVL (io), 33 PA3/COM4 (io), 34 PA2/COM3 (io), 35 PA1/COM2 (io), 36 PA0/COM1 (io), 37 P50/~{WKP0}/SEG1 (io), 38 P51/~{WKP1}/SEG2 (io), 39 P52/~{WKP2}/SEG3 (io), 40 P53/~{WKP3}/SEG4 (io), 41 P77/SEG24 (io), 42 P76/SEG23 (io), 43 P75/SEG22 (io), 44 P74/SEG21 (io), 45 P73/SEG20 (io), 46 P72/SEG19 (io), 47 P71/SEG18 (io), 48 P70/SEG17 (io), 49 P67/SEG16 (io), 50 P66/SEG15 (io), 51 P65/SEG14 (io), 52 P64/SEG13 (io), 53 P63/SEG12 (io), 54 P62/SEG11 (io), 55 P61/SEG10 (io), 56 P60/SEG9 (io), 57 P57/~{WKP7}/SEG8 (io), 58 P56/~{WKP6}/SEG7 (io), 59 P55/~{WKP5}/SEG6 (io), 60 P54/~{WKP4}/SEG5 (io), 61 P80/SEG25 (io), 62 P81/SEG26 (io), 63 P82/SEG27 (io), 64 P83/SEG28 (io), 65 P84/SEG29 (io), 66 P85/SEG30 (io), 67 P86/SEG31 (io), 68 P87/SEG32 (io), 69 P40/SCK32 (io), 70 P41/RXD32 (io), 71 P42/TXD32 (io), 72 P43/~{IRQ0} (io), 74 PB0/AN0 (in), 75 PB1/AN1 (in), 76 PB2/AN2 (in), 77 PB3/AN3 (in), 78 PB4/AN4 (in), 79 PB5/AN5 (in), 80 PB6/AN6 (in)
part B pins: 2 AVSS (power), 5 VSS (power), 26 CVCC (power), 27 VSS (power), 28 V3 (power), 29 V2 (power), 30 V1 (power), 31 V0 (power), 32 VCC (power), 73 AVCC (power)

## HD64338702XXXFP
designator U?
H8 Family 8-bit MCU, H8/300H Super Low Power, 16K ROM, 1K RAM, 2MHz, 1.8 to 3.6V, 64-Pin QFP; Published: 28-Aug-2009; DatasheetVersion: Rev.1.00, Dec-2007; PackageVersion: Sep-2005; PackageReference: PLQP0064KC-A; Publisher: Altium Limited; PackageDescription: 64-Pin Plastic Low Profile QFP, 10 x 10 x 1.45 mm Body, 0.5 mm Pitch; Code_JEITA: P-LQFP64-10x10-0.50; Code_IPC: SQFP50P1200X1200-64; ComponentLink1Description: Manufacturer Link; ComponentLink1URL: http://sg.renesas.com/fmwk.jsp?cnt=h8_family_landing.jsp&fp=/products/mpumcu/h8_family/; ComponentLink2Description: Datasheet; ComponentLink2URL: http://documentation.renesas.com/eng/products/mpumcu/rej09b0430_h838704hm.pdf; ComponentLink3Description: Packaging Specification; ComponentLink3URL: http://sg.renesas.com/media/products/common_info/package/pdf/ic/code/plqp0064kc_a.pdf
footprint PLQP0064KC-A_N (Shrink QFP, 64-Leads, Body 10x10mm, Pitch 0.5mm, IPC Medium Density)
footprint PLQP0064KC-A_L (Shrink QFP, 64-Leads, Body 10x10mm, Pitch 0.5mm, IPC High Density)
footprint PLQP0064KC-A_M (Shrink QFP, 64-Leads, Body 10x10mm, Pitch 0.5mm, IPC Low Density)
pins: 1 PB3/~{IRQ1}/AN3 (in), 2 X1 (in), 3 X2 (out), 4 VSS/AVSS (power), 5 OSC2 (out), 6 OSC1 (in), 7 TEST (in), 8 ~{RES} (in), 9 P31/TMOFL (io), 10 P32/TMOFH (io), 11 P33 (io), 12 P34 (io), 13 P35 (io), 14 P36/AEVH (io), 15 P37/AEVL (io), 16 VCC (power), 17 VSS (power), 18 VSS (power), 19 VSS (power), 20 PA3 (io), 21 PA2 (io), 22 PA1 (io), 23 PA0 (io), 24 P80 (io), 25 P77 (io), 26 P76 (io), 27 P75 (io), 28 P74 (io), 29 P73 (io), 30 P72 (io), 31 P71 (io), 32 P70 (io), 33 P67 (io), 34 P66 (io), 35 P65 (io), 36 P64 (io), 37 P63 (io), 38 P62 (io), 39 P61 (io), 40 P60 (io), 41 P57/~{WKP7} (io), 42 P56/~{WKP6} (io), 43 P55/~{WKP5} (io), 44 P54/~{WKP4} (io), 45 P53/~{WKP3} (io), 46 P52/~{WKP2} (io), 47 P51/~{WKP1} (io), 48 P50/~{WKP0} (io), 49 P90/PWM1 (out), 50 P91/PWM2 (out), 51 P92 (out), 52 P93 (out), 53 P94 (out), 54 P95 (out), 55 VSS (power), 56 IRQAEC (in), 57 P40/SCK32 (io), 58 P41/RXD32 (io), 59 P42/TXD32 (io), 60 P43/~{IRQ0} (io), 61 AVCC (power), 62 PB0/AN0 (in), 63 PB1/AN1 (in), 64 PB2/AN2 (in)

## HD64338702XXXFT
designator U?
H8 Family 8-bit MCU, H8/300H Super Low Power, 16K ROM, 1K RAM, 2MHz, 1.8 to 3.6V, 64-Pin QFN; Published: 28-Aug-2009; DatasheetVersion: Rev.1.00, Dec-2007; PackageVersion: Jun-2008; PackageReference: PVQN0064LB-A; Publisher: Altium Limited; PackageDescription: 64-Pin Plastic Very Thin QFN, 8 x 8 X 0.89 mm Body, 0.4 mm Pitch; Code_JEITA: P-VQFN64-8x8-0.40; ComponentLink1Description: Manufacturer Link; ComponentLink1URL: http://sg.renesas.com/fmwk.jsp?cnt=h8_family_landing.jsp&fp=/products/mpumcu/h8_family/; ComponentLink2Description: Datasheet; ComponentLink2URL: http://documentation.renesas.com/eng/products/mpumcu/rej09b0430_h838704hm.pdf; ComponentLink3Description: Packaging Specification; ComponentLink3URL: http://sg.renesas.com/media/products/common_info/package/pdf/ic/code/pvqn0064lb_a.pdf
footprint PVQN0064LB-A_N (QFN, 64-Leads, Body 8x8 mm, Pitch 0.4mm, IPC Medium Density)
footprint PVQN0064LB-A_L (QFN, 64-Leads, Body 8x8 mm, Pitch 0.4mm, IPC High Density)
footprint PVQN0064LB-A_M (QFN, 64-Leads, Body 8x8 mm, Pitch 0.4mm, IPC Low Density)
pins: 1 PB3/~{IRQ1}/AN3 (in), 2 X1 (in), 3 X2 (out), 4 VSS/AVSS (power), 5 OSC2 (out), 6 OSC1 (in), 7 TEST (in), 8 ~{RES} (in), 9 P31/TMOFL (io), 10 P32/TMOFH (io), 11 P33 (io), 12 P34 (io), 13 P35 (io), 14 P36/AEVH (io), 15 P37/AEVL (io), 16 VCC (power), 17 VSS (power), 18 VSS (power), 19 VSS (power), 20 PA3 (io), 21 PA2 (io), 22 PA1 (io), 23 PA0 (io), 24 P80 (io), 25 P77 (io), 26 P76 (io), 27 P75 (io), 28 P74 (io), 29 P73 (io), 30 P72 (io), 31 P71 (io), 32 P70 (io), 33 P67 (io), 34 P66 (io), 35 P65 (io), 36 P64 (io), 37 P63 (io), 38 P62 (io), 39 P61 (io), 40 P60 (io), 41 P57/~{WKP7} (io), 42 P56/~{WKP6} (io), 43 P55/~{WKP5} (io), 44 P54/~{WKP4} (io), 45 P53/~{WKP3} (io), 46 P52/~{WKP2} (io), 47 P51/~{WKP1} (io), 48 P50/~{WKP0} (io), 49 P90/PWM1 (out), 50 P91/PWM2 (out), 51 P92 (out), 52 P93 (out), 53 P94 (out), 54 P95 (out), 55 VSS (power), 56 IRQAEC (in), 57 P40/SCK32 (io), 58 P41/RXD32 (io), 59 P42/TXD32 (io), 60 P43/~{IRQ0} (io), 61 AVCC (power), 62 PB0/AN0 (in), 63 PB1/AN1 (in), 64 PB2/AN2 (in)

## HD64338702XXXH
designator U?
H8 Family 8-bit MCU, H8/300H Super Low Power, 16K ROM, 1K RAM, 2MHz, 1.8 to 3.6V, 64-Pin QFP; Published: 28-Aug-2009; DatasheetVersion: Rev.1.00, Dec-2007; PackageVersion: Sep-2005; PackageReference: PRQP0064GB-A; Publisher: Altium Limited; PackageDescription: 64-Pin Plastic Quad Flat Pack, 14 x 14 x 2.7 mm Body, 0.8 mm Pitch; Code_JEITA: P-QFP64-14x14-0.80; ComponentLink1Description: Manufacturer Link; ComponentLink1URL: http://sg.renesas.com/fmwk.jsp?cnt=h8_family_landing.jsp&fp=/products/mpumcu/h8_family/; ComponentLink2Description: Datasheet; ComponentLink2URL: http://documentation.renesas.com/eng/products/mpumcu/rej09b0430_h838704hm.pdf; ComponentLink3Description: Packaging Specification; ComponentLink3URL: http://sg.renesas.com/media/products/common_info/package/pdf/ic/code/prqp0064gb_a.pdf
footprint PRQP0064GB-A_N (QFP, 64-Leads, Body 14x14mm, Pitch 0.8mm, IPC Medium Density)
footprint PRQP0064GB-A_L (QFP, 64-Leads, Body 14x14mm, Pitch 0.8mm, IPC High Density)
footprint PRQP0064GB-A_M (QFP, 64-Leads, Body 14x14mm, Pitch 0.8mm, IPC Low Density)
pins: 1 PB3/~{IRQ1}/AN3 (in), 2 X1 (in), 3 X2 (out), 4 VSS/AVSS (power), 5 OSC2 (out), 6 OSC1 (in), 7 TEST (in), 8 ~{RES} (in), 9 P31/TMOFL (io), 10 P32/TMOFH (io), 11 P33 (io), 12 P34 (io), 13 P35 (io), 14 P36/AEVH (io), 15 P37/AEVL (io), 16 VCC (power), 17 VSS (power), 18 VSS (power), 19 VSS (power), 20 PA3 (io), 21 PA2 (io), 22 PA1 (io), 23 PA0 (io), 24 P80 (io), 25 P77 (io), 26 P76 (io), 27 P75 (io), 28 P74 (io), 29 P73 (io), 30 P72 (io), 31 P71 (io), 32 P70 (io), 33 P67 (io), 34 P66 (io), 35 P65 (io), 36 P64 (io), 37 P63 (io), 38 P62 (io), 39 P61 (io), 40 P60 (io), 41 P57/~{WKP7} (io), 42 P56/~{WKP6} (io), 43 P55/~{WKP5} (io), 44 P54/~{WKP4} (io), 45 P53/~{WKP3} (io), 46 P52/~{WKP2} (io), 47 P51/~{WKP1} (io), 48 P50/~{WKP0} (io), 49 P90/PWM1 (out), 50 P91/PWM2 (out), 51 P92 (out), 52 P93 (out), 53 P94 (out), 54 P95 (out), 55 VSS (power), 56 IRQAEC (in), 57 P40/SCK32 (io), 58 P41/RXD32 (io), 59 P42/TXD32 (io), 60 P43/~{IRQ0} (io), 61 AVCC (power), 62 PB0/AN0 (in), 63 PB1/AN1 (in), 64 PB2/AN2 (in)

## HD64338703XXXFP
designator U?
H8 Family 8-bit MCU, H8/300H Super Low Power, 24K ROM, 1K RAM, 2MHz, 1.8 to 3.6V, 64-Pin QFP; Published: 28-Aug-2009; DatasheetVersion: Rev.1.00, Dec-2007; PackageVersion: Sep-2005; PackageReference: PLQP0064KC-A; Publisher: Altium Limited; PackageDescription: 64-Pin Plastic Low Profile QFP, 10 x 10 x 1.45 mm Body, 0.5 mm Pitch; Code_JEITA: P-LQFP64-10x10-0.50; Code_IPC: SQFP50P1200X1200-64; ComponentLink1Description: Manufacturer Link; ComponentLink1URL: http://sg.renesas.com/fmwk.jsp?cnt=h8_family_landing.jsp&fp=/products/mpumcu/h8_family/; ComponentLink2Description: Datasheet; ComponentLink2URL: http://documentation.renesas.com/eng/products/mpumcu/rej09b0430_h838704hm.pdf; ComponentLink3Description: Packaging Specification; ComponentLink3URL: http://sg.renesas.com/media/products/common_info/package/pdf/ic/code/plqp0064kc_a.pdf
footprint PLQP0064KC-A_N (Shrink QFP, 64-Leads, Body 10x10mm, Pitch 0.5mm, IPC Medium Density)
footprint PLQP0064KC-A_L (Shrink QFP, 64-Leads, Body 10x10mm, Pitch 0.5mm, IPC High Density)
footprint PLQP0064KC-A_M (Shrink QFP, 64-Leads, Body 10x10mm, Pitch 0.5mm, IPC Low Density)
pins: 1 PB3/~{IRQ1}/AN3 (in), 2 X1 (in), 3 X2 (out), 4 VSS/AVSS (power), 5 OSC2 (out), 6 OSC1 (in), 7 TEST (in), 8 ~{RES} (in), 9 P31/TMOFL (io), 10 P32/TMOFH (io), 11 P33 (io), 12 P34 (io), 13 P35 (io), 14 P36/AEVH (io), 15 P37/AEVL (io), 16 VCC (power), 17 VSS (power), 18 VSS (power), 19 VSS (power), 20 PA3 (io), 21 PA2 (io), 22 PA1 (io), 23 PA0 (io), 24 P80 (io), 25 P77 (io), 26 P76 (io), 27 P75 (io), 28 P74 (io), 29 P73 (io), 30 P72 (io), 31 P71 (io), 32 P70 (io), 33 P67 (io), 34 P66 (io), 35 P65 (io), 36 P64 (io), 37 P63 (io), 38 P62 (io), 39 P61 (io), 40 P60 (io), 41 P57/~{WKP7} (io), 42 P56/~{WKP6} (io), 43 P55/~{WKP5} (io), 44 P54/~{WKP4} (io), 45 P53/~{WKP3} (io), 46 P52/~{WKP2} (io), 47 P51/~{WKP1} (io), 48 P50/~{WKP0} (io), 49 P90/PWM1 (out), 50 P91/PWM2 (out), 51 P92 (out), 52 P93 (out), 53 P94 (out), 54 P95 (out), 55 VSS (power), 56 IRQAEC (in), 57 P40/SCK32 (io), 58 P41/RXD32 (io), 59 P42/TXD32 (io), 60 P43/~{IRQ0} (io), 61 AVCC (power), 62 PB0/AN0 (in), 63 PB1/AN1 (in), 64 PB2/AN2 (in)

## HD64338703XXXFT
designator U?
H8 Family 8-bit MCU, H8/300H Super Low Power, 24K ROM, 1K RAM, 2MHz, 1.8 to 3.6V, 64-Pin QFN; Published: 28-Aug-2009; DatasheetVersion: Rev.1.00, Dec-2007; PackageVersion: Jun-2008; PackageReference: PVQN0064LB-A; Publisher: Altium Limited; PackageDescription: 64-Pin Plastic Very Thin QFN, 8 x 8 X 0.89 mm Body, 0.4 mm Pitch; Code_JEITA: P-VQFN64-8x8-0.40; ComponentLink1Description: Manufacturer Link; ComponentLink1URL: http://sg.renesas.com/fmwk.jsp?cnt=h8_family_landing.jsp&fp=/products/mpumcu/h8_family/; ComponentLink2Description: Datasheet; ComponentLink2URL: http://documentation.renesas.com/eng/products/mpumcu/rej09b0430_h838704hm.pdf; ComponentLink3Description: Packaging Specification; ComponentLink3URL: http://sg.renesas.com/media/products/common_info/package/pdf/ic/code/pvqn0064lb_a.pdf
footprint PVQN0064LB-A_N (QFN, 64-Leads, Body 8x8 mm, Pitch 0.4mm, IPC Medium Density)
footprint PVQN0064LB-A_L (QFN, 64-Leads, Body 8x8 mm, Pitch 0.4mm, IPC High Density)
footprint PVQN0064LB-A_M (QFN, 64-Leads, Body 8x8 mm, Pitch 0.4mm, IPC Low Density)
pins: 1 PB3/~{IRQ1}/AN3 (in), 2 X1 (in), 3 X2 (out), 4 VSS/AVSS (power), 5 OSC2 (out), 6 OSC1 (in), 7 TEST (in), 8 ~{RES} (in), 9 P31/TMOFL (io), 10 P32/TMOFH (io), 11 P33 (io), 12 P34 (io), 13 P35 (io), 14 P36/AEVH (io), 15 P37/AEVL (io), 16 VCC (power), 17 VSS (power), 18 VSS (power), 19 VSS (power), 20 PA3 (io), 21 PA2 (io), 22 PA1 (io), 23 PA0 (io), 24 P80 (io), 25 P77 (io), 26 P76 (io), 27 P75 (io), 28 P74 (io), 29 P73 (io), 30 P72 (io), 31 P71 (io), 32 P70 (io), 33 P67 (io), 34 P66 (io), 35 P65 (io), 36 P64 (io), 37 P63 (io), 38 P62 (io), 39 P61 (io), 40 P60 (io), 41 P57/~{WKP7} (io), 42 P56/~{WKP6} (io), 43 P55/~{WKP5} (io), 44 P54/~{WKP4} (io), 45 P53/~{WKP3} (io), 46 P52/~{WKP2} (io), 47 P51/~{WKP1} (io), 48 P50/~{WKP0} (io), 49 P90/PWM1 (out), 50 P91/PWM2 (out), 51 P92 (out), 52 P93 (out), 53 P94 (out), 54 P95 (out), 55 VSS (power), 56 IRQAEC (in), 57 P40/SCK32 (io), 58 P41/RXD32 (io), 59 P42/TXD32 (io), 60 P43/~{IRQ0} (io), 61 AVCC (power), 62 PB0/AN0 (in), 63 PB1/AN1 (in), 64 PB2/AN2 (in)

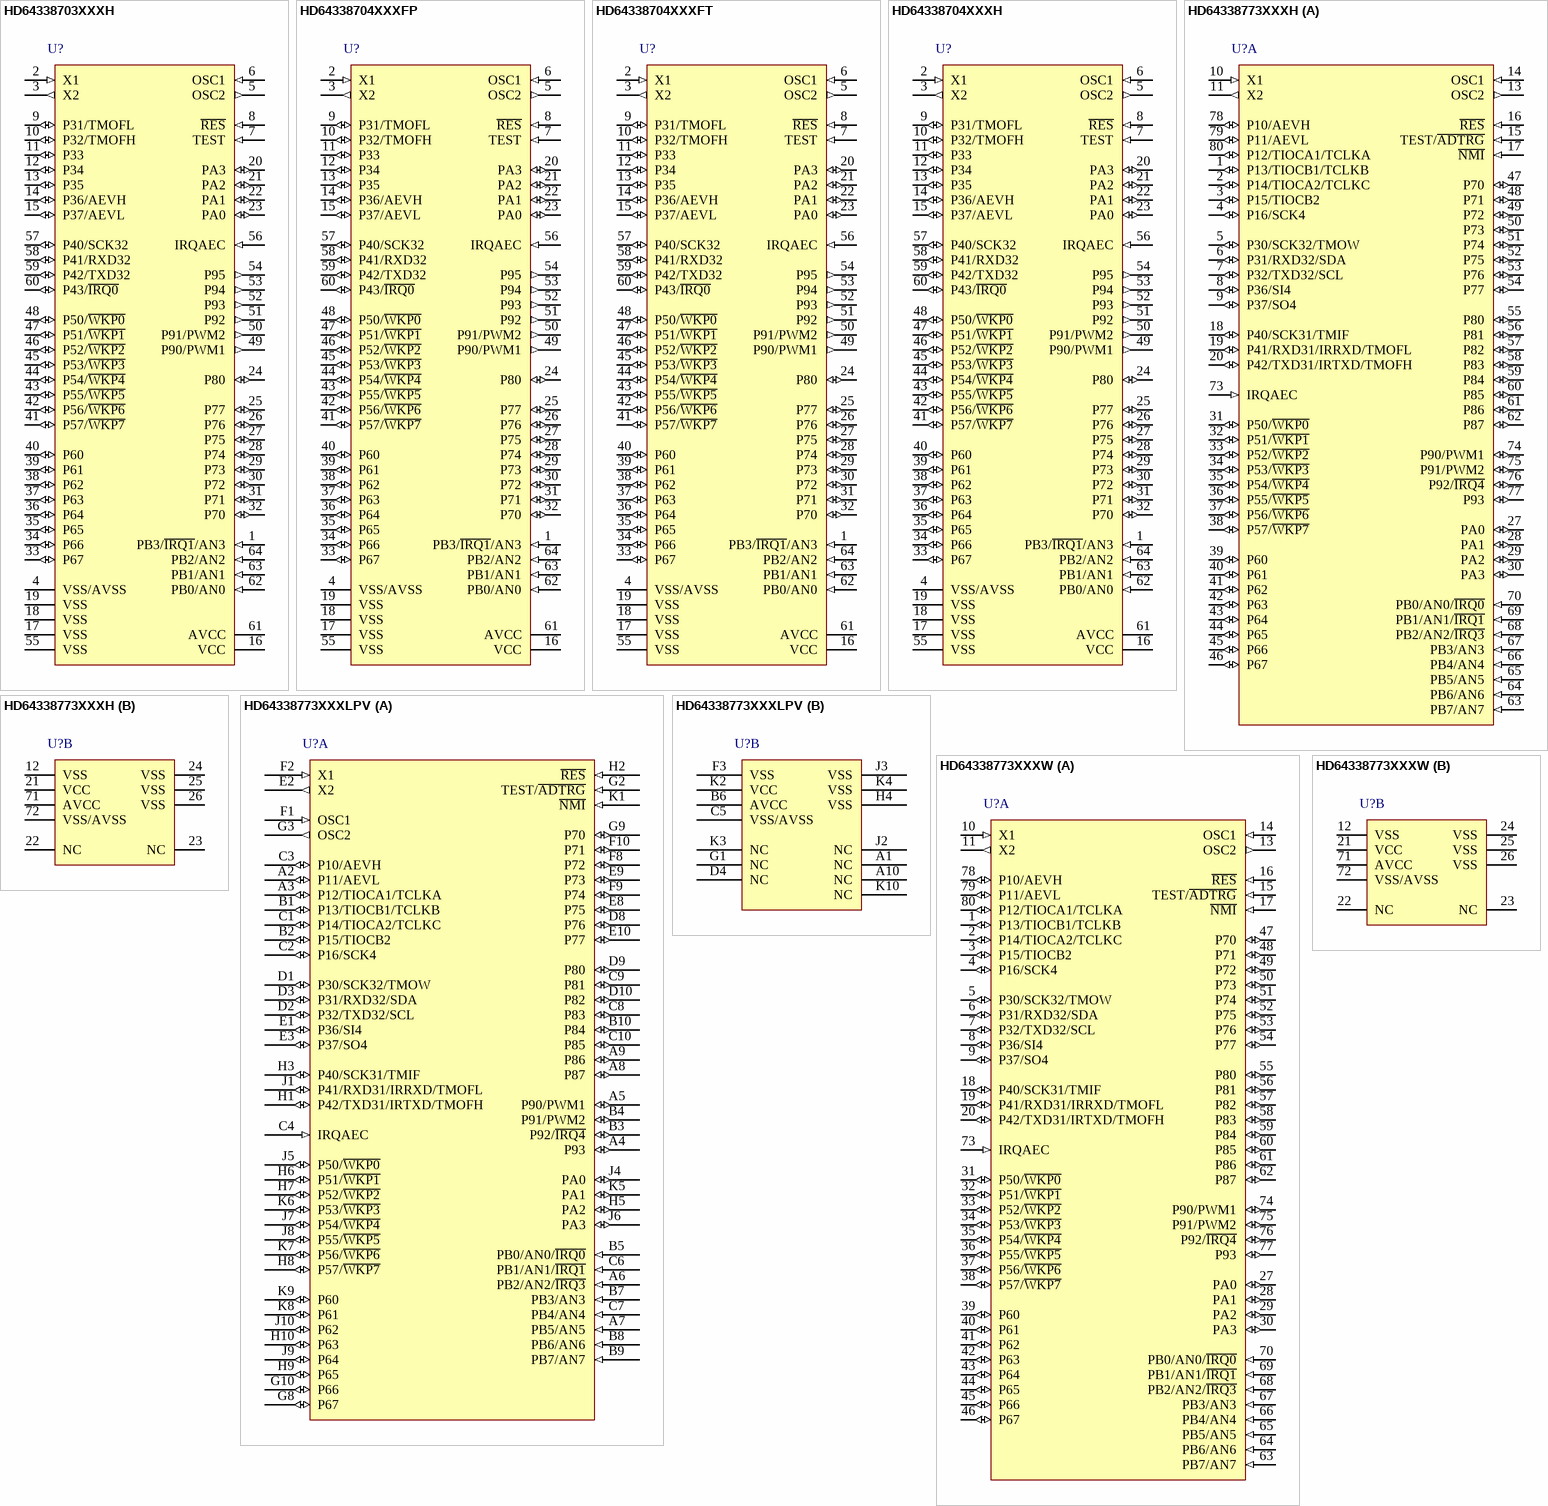
[diagram p85: symbols HD64338703XXXH to HD64338773XXXW]

## HD64338703XXXH
designator U?
H8 Family 8-bit MCU, H8/300H Super Low Power, 24K ROM, 1K RAM, 2MHz, 1.8 to 3.6V, 64-Pin QFP; Published: 28-Aug-2009; DatasheetVersion: Rev.1.00, Dec-2007; PackageVersion: Sep-2005; PackageReference: PRQP0064GB-A; Publisher: Altium Limited; PackageDescription: 64-Pin Plastic Quad Flat Pack, 14 x 14 x 2.7 mm Body, 0.8 mm Pitch; Code_JEITA: P-QFP64-14x14-0.80; ComponentLink1Description: Manufacturer Link; ComponentLink1URL: http://sg.renesas.com/fmwk.jsp?cnt=h8_family_landing.jsp&fp=/products/mpumcu/h8_family/; ComponentLink2Description: Datasheet; ComponentLink2URL: http://documentation.renesas.com/eng/products/mpumcu/rej09b0430_h838704hm.pdf; ComponentLink3Description: Packaging Specification; ComponentLink3URL: http://sg.renesas.com/media/products/common_info/package/pdf/ic/code/prqp0064gb_a.pdf
footprint PRQP0064GB-A_N (QFP, 64-Leads, Body 14x14mm, Pitch 0.8mm, IPC Medium Density)
footprint PRQP0064GB-A_L (QFP, 64-Leads, Body 14x14mm, Pitch 0.8mm, IPC High Density)
footprint PRQP0064GB-A_M (QFP, 64-Leads, Body 14x14mm, Pitch 0.8mm, IPC Low Density)
pins: 1 PB3/~{IRQ1}/AN3 (in), 2 X1 (in), 3 X2 (out), 4 VSS/AVSS (power), 5 OSC2 (out), 6 OSC1 (in), 7 TEST (in), 8 ~{RES} (in), 9 P31/TMOFL (io), 10 P32/TMOFH (io), 11 P33 (io), 12 P34 (io), 13 P35 (io), 14 P36/AEVH (io), 15 P37/AEVL (io), 16 VCC (power), 17 VSS (power), 18 VSS (power), 19 VSS (power), 20 PA3 (io), 21 PA2 (io), 22 PA1 (io), 23 PA0 (io), 24 P80 (io), 25 P77 (io), 26 P76 (io), 27 P75 (io), 28 P74 (io), 29 P73 (io), 30 P72 (io), 31 P71 (io), 32 P70 (io), 33 P67 (io), 34 P66 (io), 35 P65 (io), 36 P64 (io), 37 P63 (io), 38 P62 (io), 39 P61 (io), 40 P60 (io), 41 P57/~{WKP7} (io), 42 P56/~{WKP6} (io), 43 P55/~{WKP5} (io), 44 P54/~{WKP4} (io), 45 P53/~{WKP3} (io), 46 P52/~{WKP2} (io), 47 P51/~{WKP1} (io), 48 P50/~{WKP0} (io), 49 P90/PWM1 (out), 50 P91/PWM2 (out), 51 P92 (out), 52 P93 (out), 53 P94 (out), 54 P95 (out), 55 VSS (power), 56 IRQAEC (in), 57 P40/SCK32 (io), 58 P41/RXD32 (io), 59 P42/TXD32 (io), 60 P43/~{IRQ0} (io), 61 AVCC (power), 62 PB0/AN0 (in), 63 PB1/AN1 (in), 64 PB2/AN2 (in)

## HD64338704XXXFP
designator U?
H8 Family 8-bit MCU, H8/300H Super Low Power, 32K ROM, 1K RAM, 2MHz, 1.8 to 3.6V, 64-Pin QFP; Published: 28-Aug-2009; DatasheetVersion: Rev.1.00, Dec-2007; PackageVersion: Sep-2005; PackageReference: PLQP0064KC-A; Publisher: Altium Limited; PackageDescription: 64-Pin Plastic Low Profile QFP, 10 x 10 x 1.45 mm Body, 0.5 mm Pitch; Code_JEITA: P-LQFP64-10x10-0.50; Code_IPC: SQFP50P1200X1200-64; ComponentLink1Description: Manufacturer Link; ComponentLink1URL: http://sg.renesas.com/fmwk.jsp?cnt=h8_family_landing.jsp&fp=/products/mpumcu/h8_family/; ComponentLink2Description: Datasheet; ComponentLink2URL: http://documentation.renesas.com/eng/products/mpumcu/rej09b0430_h838704hm.pdf; ComponentLink3Description: Packaging Specification; ComponentLink3URL: http://sg.renesas.com/media/products/common_info/package/pdf/ic/code/plqp0064kc_a.pdf
footprint PLQP0064KC-A_N (Shrink QFP, 64-Leads, Body 10x10mm, Pitch 0.5mm, IPC Medium Density)
footprint PLQP0064KC-A_L (Shrink QFP, 64-Leads, Body 10x10mm, Pitch 0.5mm, IPC High Density)
footprint PLQP0064KC-A_M (Shrink QFP, 64-Leads, Body 10x10mm, Pitch 0.5mm, IPC Low Density)
pins: 1 PB3/~{IRQ1}/AN3 (in), 2 X1 (in), 3 X2 (out), 4 VSS/AVSS (power), 5 OSC2 (out), 6 OSC1 (in), 7 TEST (in), 8 ~{RES} (in), 9 P31/TMOFL (io), 10 P32/TMOFH (io), 11 P33 (io), 12 P34 (io), 13 P35 (io), 14 P36/AEVH (io), 15 P37/AEVL (io), 16 VCC (power), 17 VSS (power), 18 VSS (power), 19 VSS (power), 20 PA3 (io), 21 PA2 (io), 22 PA1 (io), 23 PA0 (io), 24 P80 (io), 25 P77 (io), 26 P76 (io), 27 P75 (io), 28 P74 (io), 29 P73 (io), 30 P72 (io), 31 P71 (io), 32 P70 (io), 33 P67 (io), 34 P66 (io), 35 P65 (io), 36 P64 (io), 37 P63 (io), 38 P62 (io), 39 P61 (io), 40 P60 (io), 41 P57/~{WKP7} (io), 42 P56/~{WKP6} (io), 43 P55/~{WKP5} (io), 44 P54/~{WKP4} (io), 45 P53/~{WKP3} (io), 46 P52/~{WKP2} (io), 47 P51/~{WKP1} (io), 48 P50/~{WKP0} (io), 49 P90/PWM1 (out), 50 P91/PWM2 (out), 51 P92 (out), 52 P93 (out), 53 P94 (out), 54 P95 (out), 55 VSS (power), 56 IRQAEC (in), 57 P40/SCK32 (io), 58 P41/RXD32 (io), 59 P42/TXD32 (io), 60 P43/~{IRQ0} (io), 61 AVCC (power), 62 PB0/AN0 (in), 63 PB1/AN1 (in), 64 PB2/AN2 (in)

## HD64338704XXXFT
designator U?
H8 Family 8-bit MCU, H8/300H Super Low Power, 32K ROM, 1K RAM, 2MHz, 1.8 to 3.6V, 64-Pin QFN; Published: 28-Aug-2009; DatasheetVersion: Rev.1.00, Dec-2007; PackageVersion: Jun-2008; PackageReference: PVQN0064LB-A; Publisher: Altium Limited; PackageDescription: 64-Pin Plastic Very Thin QFN, 8 x 8 X 0.89 mm Body, 0.4 mm Pitch; Code_JEITA: P-VQFN64-8x8-0.40; ComponentLink1Description: Manufacturer Link; ComponentLink1URL: http://sg.renesas.com/fmwk.jsp?cnt=h8_family_landing.jsp&fp=/products/mpumcu/h8_family/; ComponentLink2Description: Datasheet; ComponentLink2URL: http://documentation.renesas.com/eng/products/mpumcu/rej09b0430_h838704hm.pdf; ComponentLink3Description: Packaging Specification; ComponentLink3URL: http://sg.renesas.com/media/products/common_info/package/pdf/ic/code/pvqn0064lb_a.pdf
footprint PVQN0064LB-A_N (QFN, 64-Leads, Body 8x8 mm, Pitch 0.4mm, IPC Medium Density)
footprint PVQN0064LB-A_L (QFN, 64-Leads, Body 8x8 mm, Pitch 0.4mm, IPC High Density)
footprint PVQN0064LB-A_M (QFN, 64-Leads, Body 8x8 mm, Pitch 0.4mm, IPC Low Density)
pins: 1 PB3/~{IRQ1}/AN3 (in), 2 X1 (in), 3 X2 (out), 4 VSS/AVSS (power), 5 OSC2 (out), 6 OSC1 (in), 7 TEST (in), 8 ~{RES} (in), 9 P31/TMOFL (io), 10 P32/TMOFH (io), 11 P33 (io), 12 P34 (io), 13 P35 (io), 14 P36/AEVH (io), 15 P37/AEVL (io), 16 VCC (power), 17 VSS (power), 18 VSS (power), 19 VSS (power), 20 PA3 (io), 21 PA2 (io), 22 PA1 (io), 23 PA0 (io), 24 P80 (io), 25 P77 (io), 26 P76 (io), 27 P75 (io), 28 P74 (io), 29 P73 (io), 30 P72 (io), 31 P71 (io), 32 P70 (io), 33 P67 (io), 34 P66 (io), 35 P65 (io), 36 P64 (io), 37 P63 (io), 38 P62 (io), 39 P61 (io), 40 P60 (io), 41 P57/~{WKP7} (io), 42 P56/~{WKP6} (io), 43 P55/~{WKP5} (io), 44 P54/~{WKP4} (io), 45 P53/~{WKP3} (io), 46 P52/~{WKP2} (io), 47 P51/~{WKP1} (io), 48 P50/~{WKP0} (io), 49 P90/PWM1 (out), 50 P91/PWM2 (out), 51 P92 (out), 52 P93 (out), 53 P94 (out), 54 P95 (out), 55 VSS (power), 56 IRQAEC (in), 57 P40/SCK32 (io), 58 P41/RXD32 (io), 59 P42/TXD32 (io), 60 P43/~{IRQ0} (io), 61 AVCC (power), 62 PB0/AN0 (in), 63 PB1/AN1 (in), 64 PB2/AN2 (in)